# Altium integrated library Lattice FPGA XP.IntLib: 280 symbols (part 54 of 55)
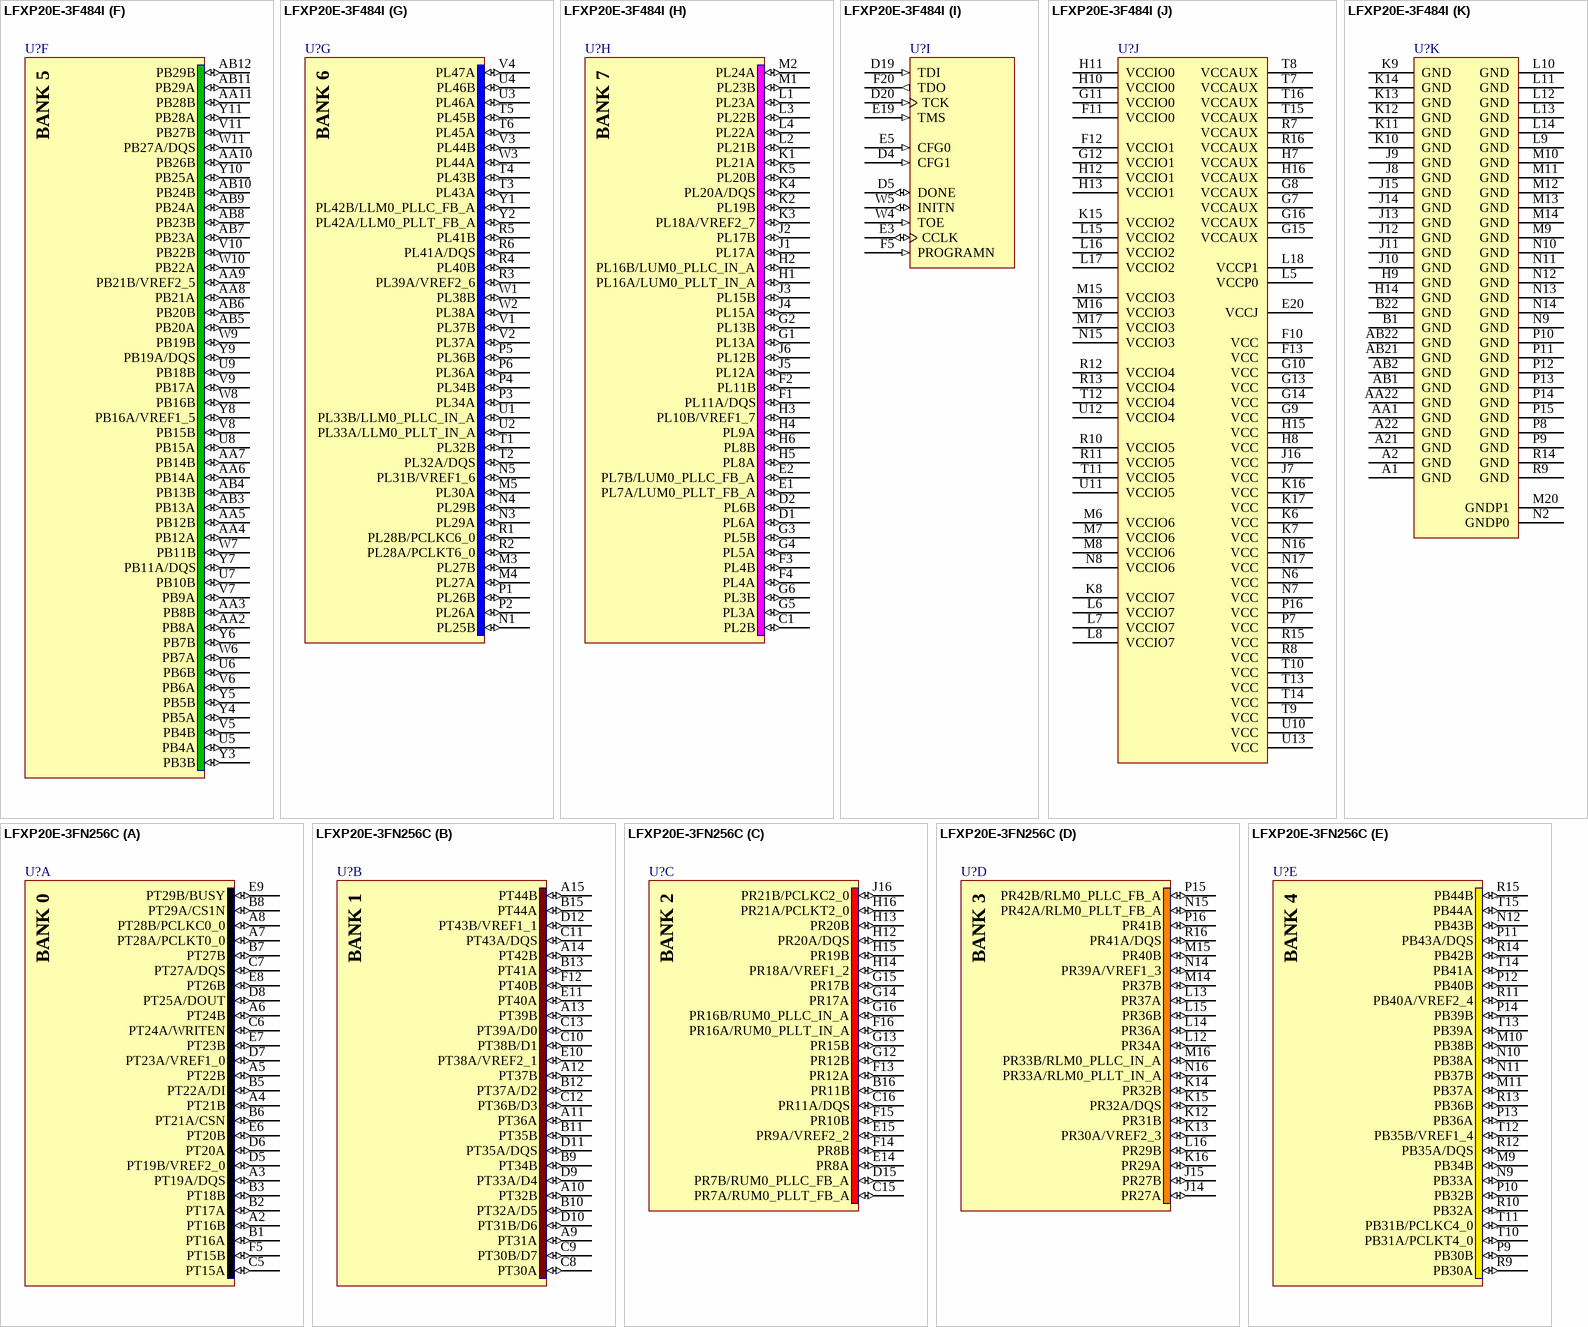
[diagram p280: symbols LFXP20E-3F484I to LFXP20E-3FN256C]

## LFXP20E-3F484I
designator U?
XP 1.2V FPGA, 340 I/Os, 20K LUTs, 484-Pin fpBGA, Speed Grade 3, Industrial Grade; DatasheetVersion: ver05.1, Nov-2007; PackageVersion: ver02.8, Jul-2011; PackageReference: fpBGA484; PackageDescription: 484-Ball Fine Pitch Ball Grid Array (fpBGA484); Code_IPC: BGA100P22X22-484; ComponentLink1Description: Manufacturer URL; ComponentLink1URL: http://www.latticesemi.com/; ComponentLink2Description: Datasheet; ComponentLink2URL: http://www.latticesemi.com/lit/docs/datasheets/fpga/DS1001.pdf; ComponentLink3Description: Package Specification; ComponentLink3URL: http://www.latticesemi.com/lit/docs/package/pkg.pdf
footprint fpBGA484 (BGA, 484-Leads, Body 23x23mm, Pitch 1mm)
part A pins: A3 PT12A (io), A4 PT14A (io), A5 PT16A (io), A6 PT19A/DQS (io), A7 PT21A/CSN (io), A8 PT24A/WRITEN (io), A9 PT25A/DOUT (io), A10 PT29A/CS1N (io), A11 PT29B/BUSY (io), B2 PT10B (io), B3 PT12B (io), B4 PT14B (io), B5 PT16B (io), B6 PT19B/VREF2_0 (io), B7 PT21B (io), B8 PT24B (io), B9 PT26B (io), B10 PT22A/DI (io), B11 PT27B (io), C2 PT9A (io), C3 PT8B (io), C4 PT5A (io), C5 PT5B (io), C6 PT6B (io), C7 PT11A/DQS (io), C8 PT15B (io), C9 PT20B (io), C10 PT22B (io), C11 PT27A/DQS (io), D3 PT8A (io), D6 PT6A (io), D7 PT11B (io), D8 PT15A (io), D9 PT20A (io), D10 PT23A/VREF1_0 (io), D11 PT28B/PCLKC0_0 (io), E4 PT3B (io), E6 PT4A (io), E7 PT7A (io), E8 PT13A (io), E9 PT17A (io), E10 PT23B (io), E11 PT28A/PCLKT0_0 (io), F6 PT4B (io), F7 PT7B (io), F8 PT13B (io), F9 PT18B (io)
part B pins: A12 PT30A (io), A13 PT30B/D7 (io), A14 PT34B (io), A15 PT37B (io), A16 PT38B/D1 (io), A17 PT42B (io), A18 PT44B (io), A19 PT46B (io), A20 PT47B (io), B12 PT32A/D5 (io), B13 PT35A/DQS (io), B14 PT33A/D4 (io), B15 PT37A/D2 (io), B16 PT38A/VREF2_1 (io), B17 PT41A (io), B18 PT44A (io), B19 PT46A (io), B20 PT47A (io), B21 PT53A (io), C12 PT32B (io), C13 PT35B (io), C14 PT39A/D0 (io), C15 PT45B (io), C16 PT48B (io), C17 PT51B (io), C18 PT54A (io), C19 PT54B (io), C20 PT56A (io), C21 PT53B (io), D12 PT31B/D6 (io), D13 PT36A (io), D14 PT39B (io), D15 PT45A (io), D16 PT48A (io), D17 PT51A/DQS (io), D18 PT55B (io), E12 PT31A (io), E13 PT36B/D3 (io), E14 PT40B (io), E15 PT43A/DQS (io), E16 PT52A (io), E17 PT52B (io), E18 PT55A (io), F14 PT40A (io), F15 PT43B/VREF1_1 (io), F16 PT49A (io), F17 PT50B (io)
part C pins: C22 PR2B (io), D21 PR6B (io), D22 PR6A (io), E21 PR7B/RUM0_PLLC_FB_A (io), E22 PR7A/RUM0_PLLT_FB_A (io), F18 PR3B (io), F19 PR3A (io), F21 PR11B (io), F22 PR11A/DQS (io), G17 PR4B (io), G18 PR4A (io), G19 PR5A (io), G20 PR5B (io), G21 PR12B (io), G22 PR12A (io), H17 PR8B (io), H18 PR8A (io), H19 PR9A/VREF2_2 (io), H20 PR10B (io), H21 PR16B/RUM0_PLLC_IN_A (io), H22 PR16A/RUM0_PLLT_IN_A (io), J17 PR13B (io), J18 PR13A (io), J19 PR15A (io), J20 PR15B (io), J21 PR20B (io), J22 PR20A/DQS (io), K18 PR19B (io), K19 PR18A/VREF1_2 (io), K20 PR17A (io), K21 PR17B (io), K22 PR21A/PCLKT2_0 (io), L19 PR22B (io), L20 PR22A (io), L21 PR21B/PCLKC2_0 (io), L22 PR23A (io), M21 PR24A (io), M22 PR23B (io)
part D pins: M18 PR28A (io), M19 PR25B (io), N18 PR28B (io), N19 PR29B (io), N20 PR29A (io), N21 PR26A (io), N22 PR26B (io), P17 PR38B (io), P18 PR38A (io), P19 PR33B/RLM0_PLLC_IN_A (io), P20 PR33A/RLM0_PLLT_IN_A (io), P21 PR27A (io), P22 PR27B (io), R17 PR42A/RLM0_PLLT_FB_A (io), R18 PR42B/RLM0_PLLC_FB_A (io), R19 PR37B (io), R20 PR37A (io), R21 PR30A/VREF2_3 (io), R22 PR31B (io), T17 PR44B (io), T18 PR44A (io), T19 PR43B (io), T20 PR43A (io), T21 PR32A/DQS (io), T22 PR32B (io), U19 PR46A (io), U20 PR46B (io), U21 PR34A (io), U22 PR34B (io), V19 PR47A (io), V20 PR45B (io), V21 PR36A (io), V22 PR36B (io), W20 PR45A (io), W21 PR39A/VREF1_3 (io), W22 PR40B (io), Y21 PR41A/DQS (io), Y22 PR41B (io)
part E pins: AA12 PB30B (io), AA13 PB33A (io), AA14 PB37A (io), AA15 PB37B (io), AA16 PB45A (io), AA17 PB45B (io), AA18 PB46A (io), AA19 PB46B (io), AA20 PB48A (io), AA21 PB48B (io), AB13 PB32A (io), AB14 PB32B (io), AB15 PB35A/DQS (io), AB16 PB35B/VREF1_4 (io), AB17 PB38A (io), AB18 PB38B (io), AB19 PB41A (io), AB20 PB42B (io), U14 PB40A/VREF2_4 (io), U15 PB43B (io), U16 PB52B (io), U17 PB55A (io), U18 PB53A (io), V12 PB31B/PCLKC4_0 (io), V13 PB36A (io), V14 PB40B (io), V15 PB43A/DQS (io), V16 PB52A (io), V17 PB55B (io), V18 PB53B (io), W12 PB31A/PCLKT4_0 (io), W13 PB36B (io), W14 PB39A (io), W15 PB44B (io), W16 PB47B (io), W17 PB56A (io), W18 PB54B (io), W19 PB54A (io), Y12 PB30A (io), Y13 PB34B (io), Y14 PB39B (io), Y15 PB44A (io), Y16 PB47A (io), Y17 PB49A (io), Y18 PB50B (io), Y19 PB51A/DQS (io), Y20 PB51B (io)
part F pins: AA2 PB8A (io), AA3 PB8B (io), AA4 PB12A (io), AA5 PB12B (io), AA6 PB14A (io), AA7 PB14B (io), AA8 PB21A (io), AA9 PB21B/VREF2_5 (io), AA10 PB26B (io), AA11 PB28B (io), AB3 PB13A (io), AB4 PB13B (io), AB5 PB20A (io), AB6 PB20B (io), AB7 PB23A (io), AB8 PB23B (io), AB9 PB24A (io), AB10 PB24B (io), AB11 PB29A (io), AB12 PB29B (io), U5 PB4A (io), U6 PB6B (io), U7 PB10B (io), U8 PB15A (io), U9 PB18B (io), V5 PB4B (io), V6 PB6A (io), V7 PB9A (io), V8 PB15B (io), V9 PB17A (io), V10 PB22B (io), V11 PB27B (io), W6 PB7A (io), W7 PB11B (io), W8 PB16B (io), W9 PB19B (io), W10 PB22A (io), W11 PB27A/DQS (io), Y3 PB3B (io), Y4 PB5A (io), Y5 PB5B (io), Y6 PB7B (io), Y7 PB11A/DQS (io), Y8 PB16A/VREF1_5 (io), Y9 PB19A/DQS (io), Y10 PB25A (io), Y11 PB28A (io)
part G pins: M3 PL27B (io), M4 PL27A (io), M5 PL30A (io), N1 PL25B (io), N3 PL29A (io), N4 PL29B (io), N5 PL31B/VREF1_6 (io), P1 PL26B (io), P2 PL26A (io), P3 PL34A (io), P4 PL34B (io), P5 PL36B (io), P6 PL36A (io), R1 PL28B/PCLKC6_0 (io), R2 PL28A/PCLKT6_0 (io), R3 PL39A/VREF2_6 (io), R4 PL40B (io), R5 PL41B (io), R6 PL41A/DQS (io), T1 PL32B (io), T2 PL32A/DQS (io), T3 PL43A (io), T4 PL43B (io), T5 PL45B (io), T6 PL45A (io), U1 PL33B/LLM0_PLLC_IN_A (io), U2 PL33A/LLM0_PLLT_IN_A (io), U3 PL46A (io), U4 PL46B (io), V1 PL37B (io), V2 PL37A (io), V3 PL44B (io), V4 PL47A (io), W1 PL38B (io), W2 PL38A (io), W3 PL44A (io), Y1 PL42B/LLM0_PLLC_FB_A (io), Y2 PL42A/LLM0_PLLT_FB_A (io)
part H pins: C1 PL2B (io), D1 PL6A (io), D2 PL6B (io), E1 PL7A/LUM0_PLLT_FB_A (io), E2 PL7B/LUM0_PLLC_FB_A (io), F1 PL11A/DQS (io), F2 PL11B (io), F3 PL4B (io), F4 PL4A (io), G1 PL13A (io), G2 PL13B (io), G3 PL5B (io), G4 PL5A (io), G5 PL3A (io), G6 PL3B (io), H1 PL16A/LUM0_PLLT_IN_A (io), H2 PL16B/LUM0_PLLC_IN_A (io), H3 PL10B/VREF1_7 (io), H4 PL9A (io), H5 PL8A (io), H6 PL8B (io), J1 PL17A (io), J2 PL17B (io), J3 PL15B (io), J4 PL15A (io), J5 PL12A (io), J6 PL12B (io), K1 PL21A (io), K2 PL19B (io), K3 PL18A/VREF2_7 (io), K4 PL20A/DQS (io), K5 PL20B (io), L1 PL23A (io), L2 PL21B (io), L3 PL22B (io), L4 PL22A (io), M1 PL23B (io), M2 PL24A (io)
part I pins: D4 CFG1 (in), D5 DONE (io), D19 TDI (in), D20 TCK (in), E3 CCLK (io), E5 CFG0 (in), E19 TMS (in), F5 PROGRAMN (in), F20 TDO (out), W4 TOE (in), W5 INITN (io)
part J pins: E20 VCCJ (power), F10 VCC (power), F11 VCCIO0 (power), F12 VCCIO1 (power), F13 VCC (power), G7 VCCAUX (power), G8 VCCAUX (power), G9 VCC (power), G10 VCC (power), G11 VCCIO0 (power), G12 VCCIO1 (power), G13 VCC (power), G14 VCC (power), G15 VCCAUX (power), G16 VCCAUX (power), H7 VCCAUX (power), H8 VCC (power), H10 VCCIO0 (power), H11 VCCIO0 (power), H12 VCCIO1 (power), H13 VCCIO1 (power), H15 VCC (power), H16 VCCAUX (power), J7 VCC (power), J16 VCC (power), K6 VCC (power), K7 VCC (power), K8 VCCIO7 (power), K15 VCCIO2 (power), K16 VCC (power), K17 VCC (power), L5 VCCP0 (power), L6 VCCIO7 (power), L7 VCCIO7 (power), L8 VCCIO7 (power), L15 VCCIO2 (power), L16 VCCIO2 (power), L17 VCCIO2 (power), L18 VCCP1 (power), M6 VCCIO6 (power), M7 VCCIO6 (power), M8 VCCIO6 (power), M15 VCCIO3 (power), M16 VCCIO3 (power), M17 VCCIO3 (power), N6 VCC (power), N7 VCC (power), N8 VCCIO6 (power), N15 VCCIO3 (power), N16 VCC (power), N17 VCC (power), P7 VCC (power), P16 VCC (power), R7 VCCAUX (power), R8 VCC (power), R10 VCCIO5 (power), R11 VCCIO5 (power), R12 VCCIO4 (power), R13 VCCIO4 (power), R15 VCC (power), R16 VCCAUX (power), T7 VCCAUX (power), T8 VCCAUX (power), T9 VCC (power), T10 VCC (power), T11 VCCIO5 (power), T12 VCCIO4 (power), T13 VCC (power), T14 VCC (power), T15 VCCAUX (power), T16 VCCAUX (power), U10 VCC (power), U11 VCCIO5 (power), U12 VCCIO4 (power), U13 VCC (power)
part K pins: A1 GND (power), A2 GND (power), A21 GND (power), A22 GND (power), AA1 GND (power), AA22 GND (power), AB1 GND (power), AB2 GND (power), AB21 GND (power), AB22 GND (power), B1 GND (power), B22 GND (power), H9 GND (power), H14 GND (power), J8 GND (power), J9 GND (power), J10 GND (power), J11 GND (power), J12 GND (power), J13 GND (power), J14 GND (power), J15 GND (power), K9 GND (power), K10 GND (power), K11 GND (power), K12 GND (power), K13 GND (power), K14 GND (power), L9 GND (power), L10 GND (power), L11 GND (power), L12 GND (power), L13 GND (power), L14 GND (power), M9 GND (power), M10 GND (power), M11 GND (power), M12 GND (power), M13 GND (power), M14 GND (power), M20 GNDP1 (power), N2 GNDP0 (power), N9 GND (power), N10 GND (power), N11 GND (power), N12 GND (power), N13 GND (power), N14 GND (power), P8 GND (power), P9 GND (power), P10 GND (power), P11 GND (power), P12 GND (power), P13 GND (power), P14 GND (power), P15 GND (power), R9 GND (power), R14 GND (power)
part A text: BANK 0
part B text: BANK 1
part C text: BANK 2
part D text: BANK 3
part E text: BANK 4
part F text: BANK 5
part G text: BANK 6
part H text: BANK 7

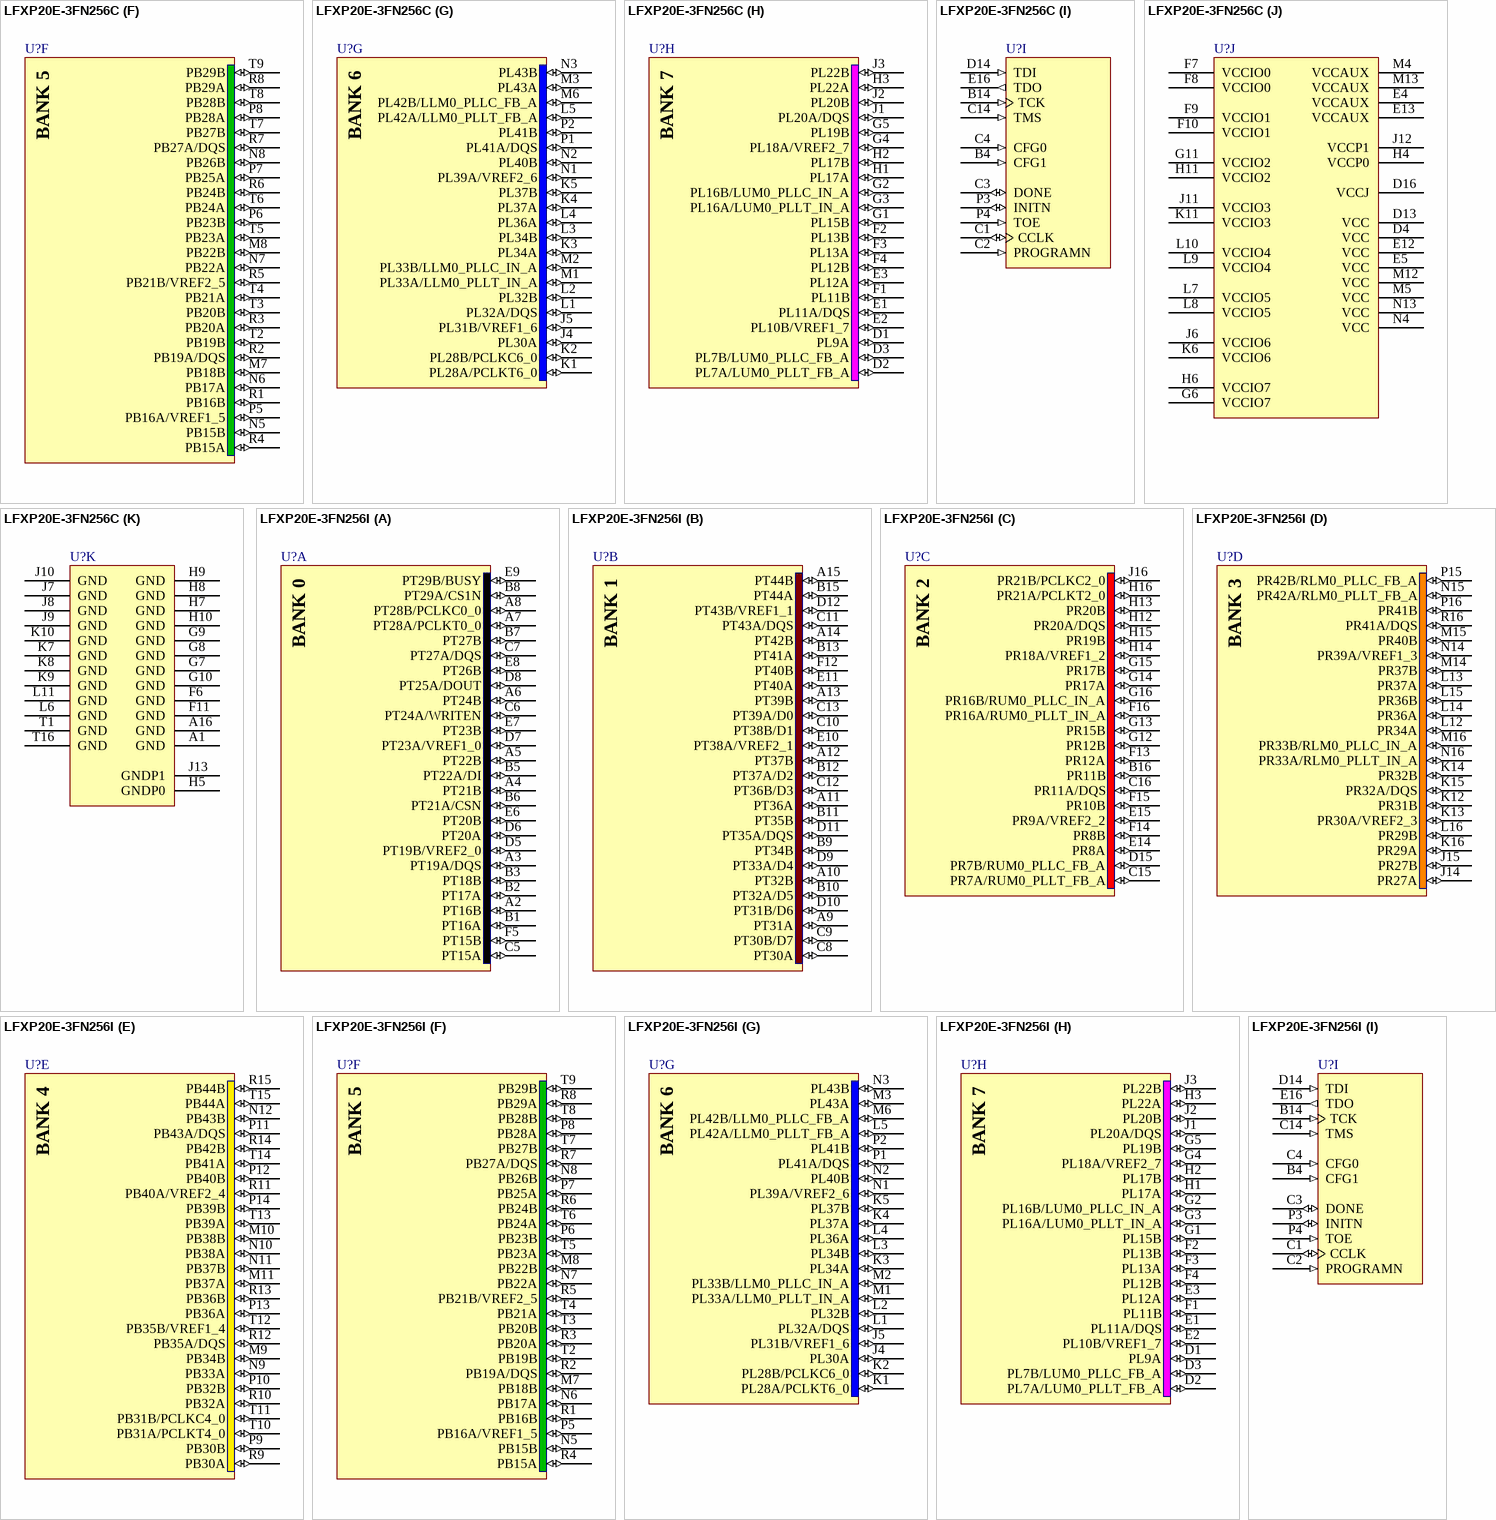
[diagram p222: symbols LFXP20E-3FN256C to LFXP20E-3FN256I]

## LFXP20E-3FN256C
designator U?
XP 1.2V FPGA, 188 I/Os, 20K LUTs, 256-Pin fpBGA, Speed Grade 3, Commerical Grade, Pb-Free; DatasheetVersion: ver05.1, Nov-2007; PackageVersion: ver01.8, Dec-2008; PackageReference: fpBGA256; PackageDescription: 256-Ball Fine Pitch Ball Grid Array (fpBGA256); Code_IPC: BGA100P16X16-256; ComponentLink1Description: Manufacturer URL; ComponentLink1URL: http://www.latticesemi.com/; ComponentLink2Description: Datasheet; ComponentLink2URL: http://www.latticesemi.com/lit/docs/datasheets/fpga/DS1001.pdf; ComponentLink3Description: Package Specification; ComponentLink3URL: http://www.latticesemi.com/lit/docs/package/pkg.pdf
footprint fpBGA256 (BGA, 256-Leads, Body 17x17mm, Pitch 1mm)
part A pins: A2 PT16B (io), A3 PT19A/DQS (io), A4 PT21B (io), A5 PT22B (io), A6 PT24B (io), A7 PT28A/PCLKT0_0 (io), A8 PT28B/PCLKC0_0 (io), B1 PT16A (io), B2 PT17A (io), B3 PT18B (io), B5 PT22A/DI (io), B6 PT21A/CSN (io), B7 PT27B (io), B8 PT29A/CS1N (io), C5 PT15A (io), C6 PT24A/WRITEN (io), C7 PT27A/DQS (io), D5 PT19B/VREF2_0 (io), D6 PT20A (io), D7 PT23A/VREF1_0 (io), D8 PT25A/DOUT (io), E6 PT20B (io), E7 PT23B (io), E8 PT26B (io), E9 PT29B/BUSY (io), F5 PT15B (io)
part B pins: A9 PT31A (io), A10 PT32B (io), A11 PT36A (io), A12 PT37B (io), A13 PT39B (io), A14 PT42B (io), A15 PT44B (io), B9 PT34B (io), B10 PT32A/D5 (io), B11 PT35B (io), B12 PT37A/D2 (io), B13 PT41A (io), B15 PT44A (io), C8 PT30A (io), C9 PT30B/D7 (io), C10 PT38B/D1 (io), C11 PT43A/DQS (io), C12 PT36B/D3 (io), C13 PT39A/D0 (io), D9 PT33A/D4 (io), D10 PT31B/D6 (io), D11 PT35A/DQS (io), D12 PT43B/VREF1_1 (io), E10 PT38A/VREF2_1 (io), E11 PT40A (io), F12 PT40B (io)
part C pins: B16 PR11B (io), C15 PR7A/RUM0_PLLT_FB_A (io), C16 PR11A/DQS (io), D15 PR7B/RUM0_PLLC_FB_A (io), E14 PR8A (io), E15 PR9A/VREF2_2 (io), F13 PR12A (io), F14 PR8B (io), F15 PR10B (io), F16 PR16A/RUM0_PLLT_IN_A (io), G12 PR12B (io), G13 PR15B (io), G14 PR17A (io), G15 PR17B (io), G16 PR16B/RUM0_PLLC_IN_A (io), H12 PR20A/DQS (io), H13 PR20B (io), H14 PR18A/VREF1_2 (io), H15 PR19B (io), H16 PR21A/PCLKT2_0 (io), J16 PR21B/PCLKC2_0 (io)
part D pins: J14 PR27A (io), J15 PR27B (io), K12 PR31B (io), K13 PR30A/VREF2_3 (io), K14 PR32B (io), K15 PR32A/DQS (io), K16 PR29A (io), L12 PR34A (io), L13 PR37A (io), L14 PR36A (io), L15 PR36B (io), L16 PR29B (io), M14 PR37B (io), M15 PR40B (io), M16 PR33B/RLM0_PLLC_IN_A (io), N14 PR39A/VREF1_3 (io), N15 PR42A/RLM0_PLLT_FB_A (io), N16 PR33A/RLM0_PLLT_IN_A (io), P15 PR42B/RLM0_PLLC_FB_A (io), P16 PR41B (io), R16 PR41A/DQS (io)
part E pins: M9 PB34B (io), M10 PB38B (io), M11 PB37A (io), N9 PB33A (io), N10 PB38A (io), N11 PB37B (io), N12 PB43B (io), P9 PB30B (io), P10 PB32B (io), P11 PB43A/DQS (io), P12 PB40B (io), P13 PB36A (io), P14 PB39B (io), R9 PB30A (io), R10 PB32A (io), R11 PB40A/VREF2_4 (io), R12 PB35A/DQS (io), R13 PB36B (io), R14 PB42B (io), R15 PB44B (io), T10 PB31A/PCLKT4_0 (io), T11 PB31B/PCLKC4_0 (io), T12 PB35B/VREF1_4 (io), T13 PB39A (io), T14 PB41A (io), T15 PB44A (io)
part F pins: M7 PB18B (io), M8 PB22B (io), N5 PB15B (io), N6 PB17A (io), N7 PB22A (io), N8 PB26B (io), P5 PB16A/VREF1_5 (io), P6 PB23B (io), P7 PB25A (io), P8 PB28A (io), R1 PB16B (io), R2 PB19A/DQS (io), R3 PB20A (io), R4 PB15A (io), R5 PB21B/VREF2_5 (io), R6 PB24B (io), R7 PB27A/DQS (io), R8 PB29A (io), T2 PB19B (io), T3 PB20B (io), T4 PB21A (io), T5 PB23A (io), T6 PB24A (io), T7 PB27B (io), T8 PB28B (io), T9 PB29B (io)
part G pins: J4 PL30A (io), J5 PL31B/VREF1_6 (io), K1 PL28A/PCLKT6_0 (io), K2 PL28B/PCLKC6_0 (io), K3 PL34A (io), K4 PL37A (io), K5 PL37B (io), L1 PL32A/DQS (io), L2 PL32B (io), L3 PL34B (io), L4 PL36A (io), L5 PL42A/LLM0_PLLT_FB_A (io), M1 PL33A/LLM0_PLLT_IN_A (io), M2 PL33B/LLM0_PLLC_IN_A (io), M3 PL43A (io), M6 PL42B/LLM0_PLLC_FB_A (io), N1 PL39A/VREF2_6 (io), N2 PL40B (io), N3 PL43B (io), P1 PL41A/DQS (io), P2 PL41B (io)
part H pins: D1 PL9A (io), D2 PL7A/LUM0_PLLT_FB_A (io), D3 PL7B/LUM0_PLLC_FB_A (io), E1 PL11A/DQS (io), E2 PL10B/VREF1_7 (io), E3 PL12A (io), F1 PL11B (io), F2 PL13B (io), F3 PL13A (io), F4 PL12B (io), G1 PL15B (io), G2 PL16B/LUM0_PLLC_IN_A (io), G3 PL16A/LUM0_PLLT_IN_A (io), G4 PL18A/VREF2_7 (io), G5 PL19B (io), H1 PL17A (io), H2 PL17B (io), H3 PL22A (io), J1 PL20A/DQS (io), J2 PL20B (io), J3 PL22B (io)
part I pins: B4 CFG1 (in), B14 TCK (in), C1 CCLK (io), C2 PROGRAMN (in), C3 DONE (io), C4 CFG0 (in), C14 TMS (in), D14 TDI (in), E16 TDO (out), P3 INITN (io), P4 TOE (in)
part J pins: D4 VCC (power), D13 VCC (power), D16 VCCJ (power), E4 VCCAUX (power), E5 VCC (power), E12 VCC (power), E13 VCCAUX (power), F7 VCCIO0 (power), F8 VCCIO0 (power), F9 VCCIO1 (power), F10 VCCIO1 (power), G6 VCCIO7 (power), G11 VCCIO2 (power), H4 VCCP0 (power), H6 VCCIO7 (power), H11 VCCIO2 (power), J6 VCCIO6 (power), J11 VCCIO3 (power), J12 VCCP1 (power), K6 VCCIO6 (power), K11 VCCIO3 (power), L7 VCCIO5 (power), L8 VCCIO5 (power), L9 VCCIO4 (power), L10 VCCIO4 (power), M4 VCCAUX (power), M5 VCC (power), M12 VCC (power), M13 VCCAUX (power), N4 VCC (power), N13 VCC (power)
part K pins: A1 GND (power), A16 GND (power), F6 GND (power), F11 GND (power), G7 GND (power), G8 GND (power), G9 GND (power), G10 GND (power), H5 GNDP0 (power), H7 GND (power), H8 GND (power), H9 GND (power), H10 GND (power), J7 GND (power), J8 GND (power), J9 GND (power), J10 GND (power), J13 GNDP1 (power), K7 GND (power), K8 GND (power), K9 GND (power), K10 GND (power), L6 GND (power), L11 GND (power), T1 GND (power), T16 GND (power)
part A text: BANK 0
part B text: BANK 1
part C text: BANK 2
part D text: BANK 3
part E text: BANK 4
part F text: BANK 5
part G text: BANK 6
part H text: BANK 7

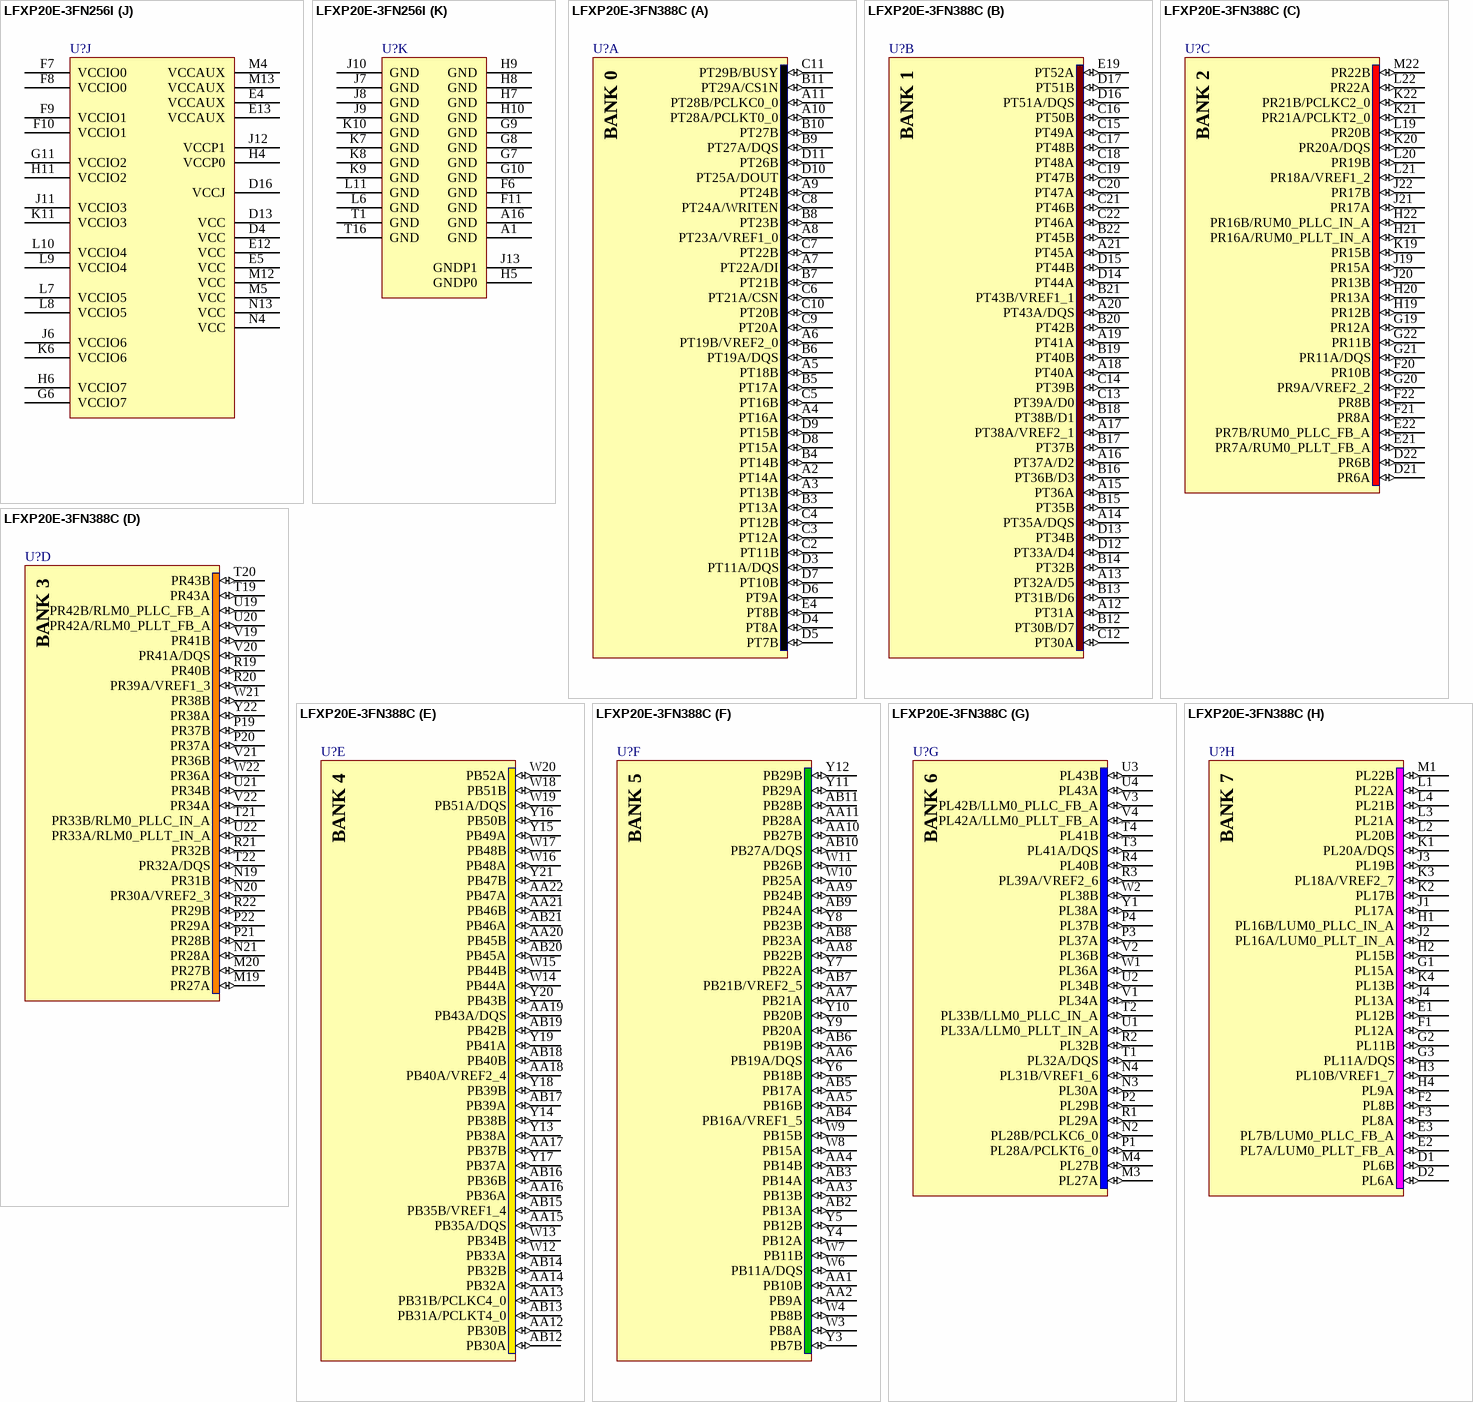
[diagram p223: symbols LFXP20E-3FN256I to LFXP20E-3FN388C]

## LFXP20E-3FN256I
designator U?
XP 1.2V FPGA, 188 I/Os, 20K LUTs, 256-Pin fpBGA, Speed Grade 3, Industrial Grade, Pb-Free; DatasheetVersion: ver05.1, Nov-2007; PackageVersion: ver01.8, Dec-2008; PackageReference: fpBGA256; PackageDescription: 256-Ball Fine Pitch Ball Grid Array (fpBGA256); Code_IPC: BGA100P16X16-256; ComponentLink1Description: Manufacturer URL; ComponentLink1URL: http://www.latticesemi.com/; ComponentLink2Description: Datasheet; ComponentLink2URL: http://www.latticesemi.com/lit/docs/datasheets/fpga/DS1001.pdf; ComponentLink3Description: Package Specification; ComponentLink3URL: http://www.latticesemi.com/lit/docs/package/pkg.pdf
footprint fpBGA256 (BGA, 256-Leads, Body 17x17mm, Pitch 1mm)
part A pins: A2 PT16B (io), A3 PT19A/DQS (io), A4 PT21B (io), A5 PT22B (io), A6 PT24B (io), A7 PT28A/PCLKT0_0 (io), A8 PT28B/PCLKC0_0 (io), B1 PT16A (io), B2 PT17A (io), B3 PT18B (io), B5 PT22A/DI (io), B6 PT21A/CSN (io), B7 PT27B (io), B8 PT29A/CS1N (io), C5 PT15A (io), C6 PT24A/WRITEN (io), C7 PT27A/DQS (io), D5 PT19B/VREF2_0 (io), D6 PT20A (io), D7 PT23A/VREF1_0 (io), D8 PT25A/DOUT (io), E6 PT20B (io), E7 PT23B (io), E8 PT26B (io), E9 PT29B/BUSY (io), F5 PT15B (io)
part B pins: A9 PT31A (io), A10 PT32B (io), A11 PT36A (io), A12 PT37B (io), A13 PT39B (io), A14 PT42B (io), A15 PT44B (io), B9 PT34B (io), B10 PT32A/D5 (io), B11 PT35B (io), B12 PT37A/D2 (io), B13 PT41A (io), B15 PT44A (io), C8 PT30A (io), C9 PT30B/D7 (io), C10 PT38B/D1 (io), C11 PT43A/DQS (io), C12 PT36B/D3 (io), C13 PT39A/D0 (io), D9 PT33A/D4 (io), D10 PT31B/D6 (io), D11 PT35A/DQS (io), D12 PT43B/VREF1_1 (io), E10 PT38A/VREF2_1 (io), E11 PT40A (io), F12 PT40B (io)
part C pins: B16 PR11B (io), C15 PR7A/RUM0_PLLT_FB_A (io), C16 PR11A/DQS (io), D15 PR7B/RUM0_PLLC_FB_A (io), E14 PR8A (io), E15 PR9A/VREF2_2 (io), F13 PR12A (io), F14 PR8B (io), F15 PR10B (io), F16 PR16A/RUM0_PLLT_IN_A (io), G12 PR12B (io), G13 PR15B (io), G14 PR17A (io), G15 PR17B (io), G16 PR16B/RUM0_PLLC_IN_A (io), H12 PR20A/DQS (io), H13 PR20B (io), H14 PR18A/VREF1_2 (io), H15 PR19B (io), H16 PR21A/PCLKT2_0 (io), J16 PR21B/PCLKC2_0 (io)
part D pins: J14 PR27A (io), J15 PR27B (io), K12 PR31B (io), K13 PR30A/VREF2_3 (io), K14 PR32B (io), K15 PR32A/DQS (io), K16 PR29A (io), L12 PR34A (io), L13 PR37A (io), L14 PR36A (io), L15 PR36B (io), L16 PR29B (io), M14 PR37B (io), M15 PR40B (io), M16 PR33B/RLM0_PLLC_IN_A (io), N14 PR39A/VREF1_3 (io), N15 PR42A/RLM0_PLLT_FB_A (io), N16 PR33A/RLM0_PLLT_IN_A (io), P15 PR42B/RLM0_PLLC_FB_A (io), P16 PR41B (io), R16 PR41A/DQS (io)
part E pins: M9 PB34B (io), M10 PB38B (io), M11 PB37A (io), N9 PB33A (io), N10 PB38A (io), N11 PB37B (io), N12 PB43B (io), P9 PB30B (io), P10 PB32B (io), P11 PB43A/DQS (io), P12 PB40B (io), P13 PB36A (io), P14 PB39B (io), R9 PB30A (io), R10 PB32A (io), R11 PB40A/VREF2_4 (io), R12 PB35A/DQS (io), R13 PB36B (io), R14 PB42B (io), R15 PB44B (io), T10 PB31A/PCLKT4_0 (io), T11 PB31B/PCLKC4_0 (io), T12 PB35B/VREF1_4 (io), T13 PB39A (io), T14 PB41A (io), T15 PB44A (io)
part F pins: M7 PB18B (io), M8 PB22B (io), N5 PB15B (io), N6 PB17A (io), N7 PB22A (io), N8 PB26B (io), P5 PB16A/VREF1_5 (io), P6 PB23B (io), P7 PB25A (io), P8 PB28A (io), R1 PB16B (io), R2 PB19A/DQS (io), R3 PB20A (io), R4 PB15A (io), R5 PB21B/VREF2_5 (io), R6 PB24B (io), R7 PB27A/DQS (io), R8 PB29A (io), T2 PB19B (io), T3 PB20B (io), T4 PB21A (io), T5 PB23A (io), T6 PB24A (io), T7 PB27B (io), T8 PB28B (io), T9 PB29B (io)
part G pins: J4 PL30A (io), J5 PL31B/VREF1_6 (io), K1 PL28A/PCLKT6_0 (io), K2 PL28B/PCLKC6_0 (io), K3 PL34A (io), K4 PL37A (io), K5 PL37B (io), L1 PL32A/DQS (io), L2 PL32B (io), L3 PL34B (io), L4 PL36A (io), L5 PL42A/LLM0_PLLT_FB_A (io), M1 PL33A/LLM0_PLLT_IN_A (io), M2 PL33B/LLM0_PLLC_IN_A (io), M3 PL43A (io), M6 PL42B/LLM0_PLLC_FB_A (io), N1 PL39A/VREF2_6 (io), N2 PL40B (io), N3 PL43B (io), P1 PL41A/DQS (io), P2 PL41B (io)
part H pins: D1 PL9A (io), D2 PL7A/LUM0_PLLT_FB_A (io), D3 PL7B/LUM0_PLLC_FB_A (io), E1 PL11A/DQS (io), E2 PL10B/VREF1_7 (io), E3 PL12A (io), F1 PL11B (io), F2 PL13B (io), F3 PL13A (io), F4 PL12B (io), G1 PL15B (io), G2 PL16B/LUM0_PLLC_IN_A (io), G3 PL16A/LUM0_PLLT_IN_A (io), G4 PL18A/VREF2_7 (io), G5 PL19B (io), H1 PL17A (io), H2 PL17B (io), H3 PL22A (io), J1 PL20A/DQS (io), J2 PL20B (io), J3 PL22B (io)
part I pins: B4 CFG1 (in), B14 TCK (in), C1 CCLK (io), C2 PROGRAMN (in), C3 DONE (io), C4 CFG0 (in), C14 TMS (in), D14 TDI (in), E16 TDO (out), P3 INITN (io), P4 TOE (in)
part J pins: D4 VCC (power), D13 VCC (power), D16 VCCJ (power), E4 VCCAUX (power), E5 VCC (power), E12 VCC (power), E13 VCCAUX (power), F7 VCCIO0 (power), F8 VCCIO0 (power), F9 VCCIO1 (power), F10 VCCIO1 (power), G6 VCCIO7 (power), G11 VCCIO2 (power), H4 VCCP0 (power), H6 VCCIO7 (power), H11 VCCIO2 (power), J6 VCCIO6 (power), J11 VCCIO3 (power), J12 VCCP1 (power), K6 VCCIO6 (power), K11 VCCIO3 (power), L7 VCCIO5 (power), L8 VCCIO5 (power), L9 VCCIO4 (power), L10 VCCIO4 (power), M4 VCCAUX (power), M5 VCC (power), M12 VCC (power), M13 VCCAUX (power), N4 VCC (power), N13 VCC (power)
part K pins: A1 GND (power), A16 GND (power), F6 GND (power), F11 GND (power), G7 GND (power), G8 GND (power), G9 GND (power), G10 GND (power), H5 GNDP0 (power), H7 GND (power), H8 GND (power), H9 GND (power), H10 GND (power), J7 GND (power), J8 GND (power), J9 GND (power), J10 GND (power), J13 GNDP1 (power), K7 GND (power), K8 GND (power), K9 GND (power), K10 GND (power), L6 GND (power), L11 GND (power), T1 GND (power), T16 GND (power)
part A text: BANK 0
part B text: BANK 1
part C text: BANK 2
part D text: BANK 3
part E text: BANK 4
part F text: BANK 5
part G text: BANK 6
part H text: BANK 7

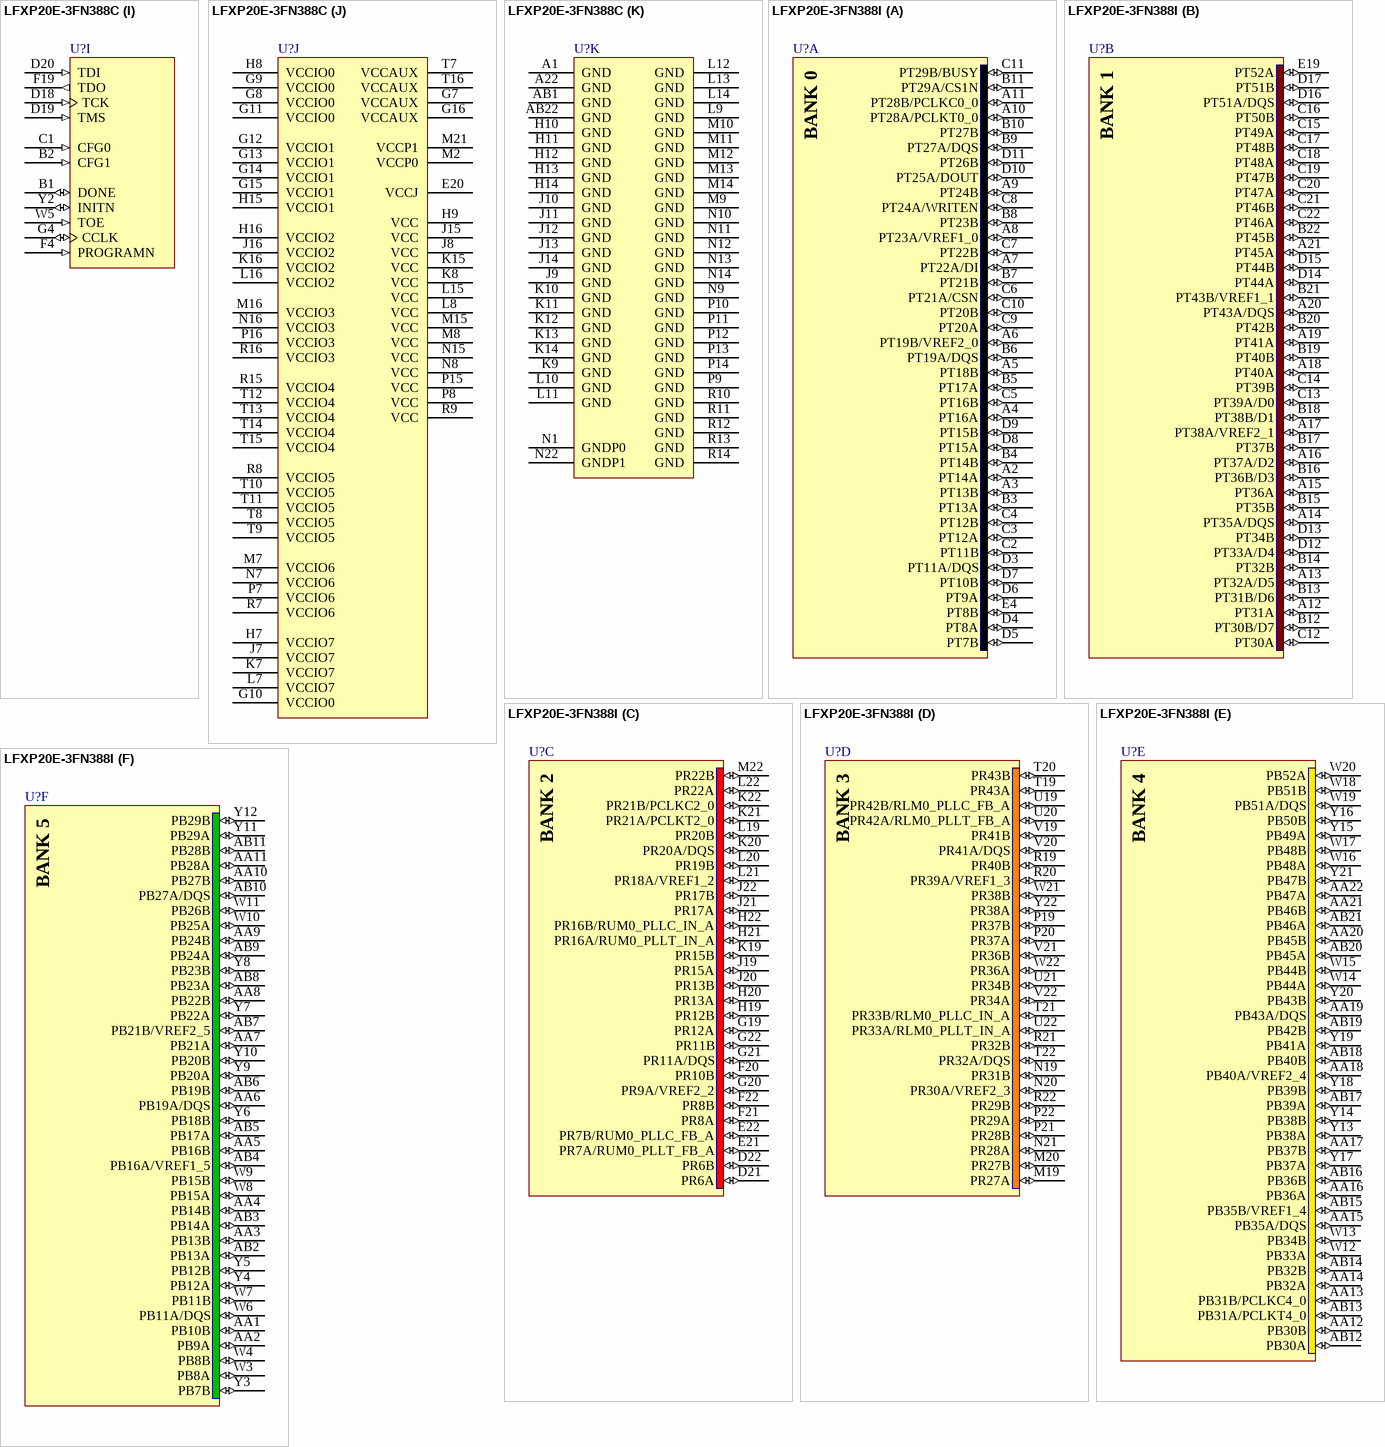
[diagram p224: symbols LFXP20E-3FN388C to LFXP20E-3FN388I]

## LFXP20E-3FN388C
designator U?
XP 1.2V FPGA, 268 I/Os, 20K LUTs, 388-Pin fpBGA, Speed Grade 3, Commerical Grade, Pb-Free; DatasheetVersion: ver05.1, Nov-2007; PackageVersion: ver01.8, Dec-2008; PackageReference: fpBGA388; PackageDescription: 388-Ball Fine Pitch Ball Grid Array (fpBGA388); ComponentLink1Description: Manufacturer URL; ComponentLink1URL: http://www.latticesemi.com/; ComponentLink2Description: Datasheet; ComponentLink2URL: http://www.latticesemi.com/lit/docs/datasheets/fpga/DS1001.pdf; ComponentLink3Description: Package Specification; ComponentLink3URL: http://www.latticesemi.com/lit/docs/package/pkg.pdf
footprint fpBGA388 (BGA, 388-Leads, Body 23x23mm, Pitch 1mm)
part A pins: A2 PT14A (io), A3 PT13B (io), A4 PT16A (io), A5 PT18B (io), A6 PT19B/VREF2_0 (io), A7 PT22A/DI (io), A8 PT23A/VREF1_0 (io), A9 PT24B (io), A10 PT28A/PCLKT0_0 (io), A11 PT28B/PCLKC0_0 (io), B3 PT13A (io), B4 PT14B (io), B5 PT17A (io), B6 PT19A/DQS (io), B7 PT21B (io), B8 PT23B (io), B9 PT27A/DQS (io), B10 PT27B (io), B11 PT29A/CS1N (io), C2 PT11B (io), C3 PT12A (io), C4 PT12B (io), C5 PT16B (io), C6 PT21A/CSN (io), C7 PT22B (io), C8 PT24A/WRITEN (io), C9 PT20A (io), C10 PT20B (io), C11 PT29B/BUSY (io), D3 PT11A/DQS (io), D4 PT8A (io), D5 PT7B (io), D6 PT9A (io), D7 PT10B (io), D8 PT15A (io), D9 PT15B (io), D10 PT25A/DOUT (io), D11 PT26B (io), E4 PT8B (io)
part B pins: A12 PT31A (io), A13 PT32A/D5 (io), A14 PT35A/DQS (io), A15 PT36A (io), A16 PT37A/D2 (io), A17 PT38A/VREF2_1 (io), A18 PT40A (io), A19 PT41A (io), A20 PT43A/DQS (io), A21 PT45A (io), B12 PT30B/D7 (io), B13 PT31B/D6 (io), B14 PT32B (io), B15 PT35B (io), B16 PT36B/D3 (io), B17 PT37B (io), B18 PT38B/D1 (io), B19 PT40B (io), B20 PT42B (io), B21 PT43B/VREF1_1 (io), B22 PT45B (io), C12 PT30A (io), C13 PT39A/D0 (io), C14 PT39B (io), C15 PT49A (io), C16 PT50B (io), C17 PT48B (io), C18 PT48A (io), C19 PT47B (io), C20 PT47A (io), C21 PT46B (io), C22 PT46A (io), D12 PT33A/D4 (io), D13 PT34B (io), D14 PT44A (io), D15 PT44B (io), D16 PT51A/DQS (io), D17 PT51B (io), E19 PT52A (io)
part C pins: D21 PR6A (io), D22 PR6B (io), E21 PR7A/RUM0_PLLT_FB_A (io), E22 PR7B/RUM0_PLLC_FB_A (io), F20 PR10B (io), F21 PR8A (io), F22 PR8B (io), G19 PR12A (io), G20 PR9A/VREF2_2 (io), G21 PR11A/DQS (io), G22 PR11B (io), H19 PR12B (io), H20 PR13A (io), H21 PR16A/RUM0_PLLT_IN_A (io), H22 PR16B/RUM0_PLLC_IN_A (io), J19 PR15A (io), J20 PR13B (io), J21 PR17A (io), J22 PR17B (io), K19 PR15B (io), K20 PR20A/DQS (io), K21 PR21A/PCLKT2_0 (io), K22 PR21B/PCLKC2_0 (io), L19 PR20B (io), L20 PR19B (io), L21 PR18A/VREF1_2 (io), L22 PR22A (io), M22 PR22B (io)
part D pins: M19 PR27A (io), M20 PR27B (io), N19 PR31B (io), N20 PR30A/VREF2_3 (io), N21 PR28A (io), P19 PR37B (io), P20 PR37A (io), P21 PR28B (io), P22 PR29A (io), R19 PR40B (io), R20 PR39A/VREF1_3 (io), R21 PR32B (io), R22 PR29B (io), T19 PR43A (io), T20 PR43B (io), T21 PR33B/RLM0_PLLC_IN_A (io), T22 PR32A/DQS (io), U19 PR42B/RLM0_PLLC_FB_A (io), U20 PR42A/RLM0_PLLT_FB_A (io), U21 PR34B (io), U22 PR33A/RLM0_PLLT_IN_A (io), V19 PR41B (io), V20 PR41A/DQS (io), V21 PR36B (io), V22 PR34A (io), W21 PR38B (io), W22 PR36A (io), Y22 PR38A (io)
part E pins: AA12 PB30B (io), AA13 PB31B/PCLKC4_0 (io), AA14 PB32A (io), AA15 PB35A/DQS (io), AA16 PB36A (io), AA17 PB37B (io), AA18 PB40A/VREF2_4 (io), AA19 PB43A/DQS (io), AA20 PB45B (io), AA21 PB46B (io), AA22 PB47A (io), AB12 PB30A (io), AB13 PB31A/PCLKT4_0 (io), AB14 PB32B (io), AB15 PB35B/VREF1_4 (io), AB16 PB36B (io), AB17 PB39A (io), AB18 PB40B (io), AB19 PB42B (io), AB20 PB45A (io), AB21 PB46A (io), W12 PB33A (io), W13 PB34B (io), W14 PB44A (io), W15 PB44B (io), W16 PB48A (io), W17 PB48B (io), W18 PB51B (io), W19 PB51A/DQS (io), W20 PB52A (io), Y13 PB38A (io), Y14 PB38B (io), Y15 PB49A (io), Y16 PB50B (io), Y17 PB37A (io), Y18 PB39B (io), Y19 PB41A (io), Y20 PB43B (io), Y21 PB47B (io)
part F pins: AA1 PB10B (io), AA2 PB9A (io), AA3 PB13B (io), AA4 PB14B (io), AA5 PB16B (io), AA6 PB19A/DQS (io), AA7 PB21A (io), AA8 PB22B (io), AA9 PB24B (io), AA10 PB27B (io), AA11 PB28A (io), AB2 PB13A (io), AB3 PB14A (io), AB4 PB16A/VREF1_5 (io), AB5 PB17A (io), AB6 PB19B (io), AB7 PB21B/VREF2_5 (io), AB8 PB23A (io), AB9 PB24A (io), AB10 PB27A/DQS (io), AB11 PB28B (io), W3 PB8A (io), W4 PB8B (io), W6 PB11A/DQS (io), W7 PB11B (io), W8 PB15A (io), W9 PB15B (io), W10 PB25A (io), W11 PB26B (io), Y3 PB7B (io), Y4 PB12A (io), Y5 PB12B (io), Y6 PB18B (io), Y7 PB22A (io), Y8 PB23B (io), Y9 PB20A (io), Y10 PB20B (io), Y11 PB29A (io), Y12 PB29B (io)
part G pins: M3 PL27A (io), M4 PL27B (io), N2 PL28B/PCLKC6_0 (io), N3 PL30A (io), N4 PL31B/VREF1_6 (io), P1 PL28A/PCLKT6_0 (io), P2 PL29B (io), P3 PL37A (io), P4 PL37B (io), R1 PL29A (io), R2 PL32B (io), R3 PL39A/VREF2_6 (io), R4 PL40B (io), T1 PL32A/DQS (io), T2 PL33B/LLM0_PLLC_IN_A (io), T3 PL41A/DQS (io), T4 PL41B (io), U1 PL33A/LLM0_PLLT_IN_A (io), U2 PL34B (io), U3 PL43B (io), U4 PL43A (io), V1 PL34A (io), V2 PL36B (io), V3 PL42B/LLM0_PLLC_FB_A (io), V4 PL42A/LLM0_PLLT_FB_A (io), W1 PL36A (io), W2 PL38B (io), Y1 PL38A (io)
part H pins: D1 PL6B (io), D2 PL6A (io), E1 PL12B (io), E2 PL7A/LUM0_PLLT_FB_A (io), E3 PL7B/LUM0_PLLC_FB_A (io), F1 PL12A (io), F2 PL8B (io), F3 PL8A (io), G1 PL15A (io), G2 PL11B (io), G3 PL11A/DQS (io), H1 PL16B/LUM0_PLLC_IN_A (io), H2 PL15B (io), H3 PL10B/VREF1_7 (io), H4 PL9A (io), J1 PL17A (io), J2 PL16A/LUM0_PLLT_IN_A (io), J3 PL19B (io), J4 PL13A (io), K1 PL20A/DQS (io), K2 PL17B (io), K3 PL18A/VREF2_7 (io), K4 PL13B (io), L1 PL22A (io), L2 PL20B (io), L3 PL21A (io), L4 PL21B (io), M1 PL22B (io)
part I pins: B1 DONE (io), B2 CFG1 (in), C1 CFG0 (in), D18 TCK (in), D19 TMS (in), D20 TDI (in), F4 PROGRAMN (in), F19 TDO (out), G4 CCLK (io), W5 TOE (in), Y2 INITN (io)
part J pins: E20 VCCJ (power), G7 VCCAUX (power), G8 VCCIO0 (power), G9 VCCIO0 (power), G10 VCCIO0 (power), G11 VCCIO0 (power), G12 VCCIO1 (power), G13 VCCIO1 (power), G14 VCCIO1 (power), G15 VCCIO1 (power), G16 VCCAUX (power), H7 VCCIO7 (power), H8 VCCIO0 (power), H9 VCC (power), H15 VCCIO1 (power), H16 VCCIO2 (power), J7 VCCIO7 (power), J8 VCC (power), J15 VCC (power), J16 VCCIO2 (power), K7 VCCIO7 (power), K8 VCC (power), K15 VCC (power), K16 VCCIO2 (power), L7 VCCIO7 (power), L8 VCC (power), L15 VCC (power), L16 VCCIO2 (power), M2 VCCP0 (power), M7 VCCIO6 (power), M8 VCC (power), M15 VCC (power), M16 VCCIO3 (power), M21 VCCP1 (power), N7 VCCIO6 (power), N8 VCC (power), N15 VCC (power), N16 VCCIO3 (power), P7 VCCIO6 (power), P8 VCC (power), P15 VCC (power), P16 VCCIO3 (power), R7 VCCIO6 (power), R8 VCCIO5 (power), R9 VCC (power), R15 VCCIO4 (power), R16 VCCIO3 (power), T7 VCCAUX (power), T8 VCCIO5 (power), T9 VCCIO5 (power), T10 VCCIO5 (power), T11 VCCIO5 (power), T12 VCCIO4 (power), T13 VCCIO4 (power), T14 VCCIO4 (power), T15 VCCIO4 (power), T16 VCCAUX (power)
part K pins: A1 GND (power), A22 GND (power), AB1 GND (power), AB22 GND (power), H10 GND (power), H11 GND (power), H12 GND (power), H13 GND (power), H14 GND (power), J9 GND (power), J10 GND (power), J11 GND (power), J12 GND (power), J13 GND (power), J14 GND (power), K9 GND (power), K10 GND (power), K11 GND (power), K12 GND (power), K13 GND (power), K14 GND (power), L9 GND (power), L10 GND (power), L11 GND (power), L12 GND (power), L13 GND (power), L14 GND (power), M9 GND (power), M10 GND (power), M11 GND (power), M12 GND (power), M13 GND (power), M14 GND (power), N1 GNDP0 (power), N9 GND (power), N10 GND (power), N11 GND (power), N12 GND (power), N13 GND (power), N14 GND (power), N22 GNDP1 (power), P9 GND (power), P10 GND (power), P11 GND (power), P12 GND (power), P13 GND (power), P14 GND (power), R10 GND (power), R11 GND (power), R12 GND (power), R13 GND (power), R14 GND (power)
part A text: BANK 0
part B text: BANK 1
part C text: BANK 2
part D text: BANK 3
part E text: BANK 4
part F text: BANK 5
part G text: BANK 6
part H text: BANK 7

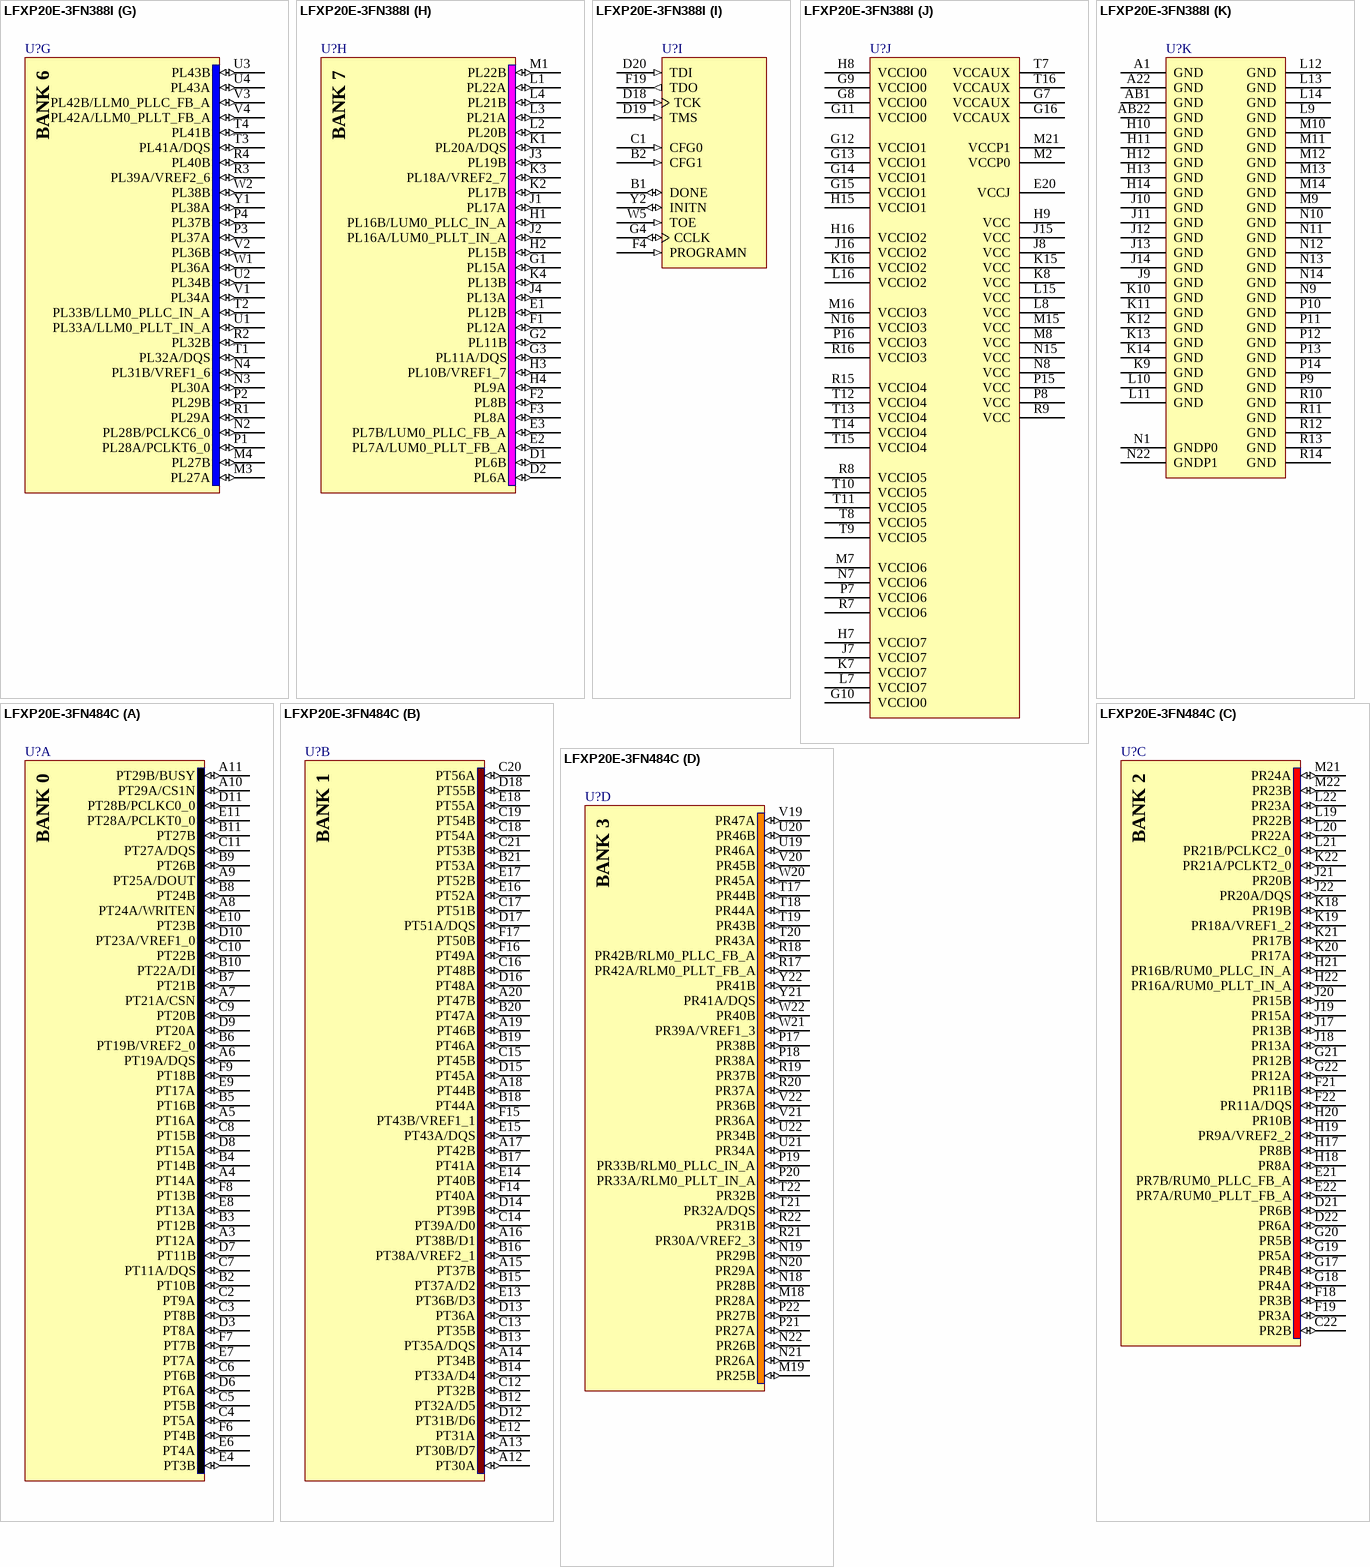
[diagram p225: symbols LFXP20E-3FN388I to LFXP20E-3FN484C]

## LFXP20E-3FN388I
designator U?
XP 1.2V FPGA, 268 I/Os, 20K LUTs, 388-Pin fpBGA, Speed Grade 3, Industrial Grade, Pb-Free; DatasheetVersion: ver05.1, Nov-2007; PackageVersion: ver01.8, Dec-2008; PackageReference: fpBGA388; PackageDescription: 388-Ball Fine Pitch Ball Grid Array (fpBGA388); ComponentLink1Description: Manufacturer URL; ComponentLink1URL: http://www.latticesemi.com/; ComponentLink2Description: Datasheet; ComponentLink2URL: http://www.latticesemi.com/lit/docs/datasheets/fpga/DS1001.pdf; ComponentLink3Description: Package Specification; ComponentLink3URL: http://www.latticesemi.com/lit/docs/package/pkg.pdf
footprint fpBGA388 (BGA, 388-Leads, Body 23x23mm, Pitch 1mm)
part A pins: A2 PT14A (io), A3 PT13B (io), A4 PT16A (io), A5 PT18B (io), A6 PT19B/VREF2_0 (io), A7 PT22A/DI (io), A8 PT23A/VREF1_0 (io), A9 PT24B (io), A10 PT28A/PCLKT0_0 (io), A11 PT28B/PCLKC0_0 (io), B3 PT13A (io), B4 PT14B (io), B5 PT17A (io), B6 PT19A/DQS (io), B7 PT21B (io), B8 PT23B (io), B9 PT27A/DQS (io), B10 PT27B (io), B11 PT29A/CS1N (io), C2 PT11B (io), C3 PT12A (io), C4 PT12B (io), C5 PT16B (io), C6 PT21A/CSN (io), C7 PT22B (io), C8 PT24A/WRITEN (io), C9 PT20A (io), C10 PT20B (io), C11 PT29B/BUSY (io), D3 PT11A/DQS (io), D4 PT8A (io), D5 PT7B (io), D6 PT9A (io), D7 PT10B (io), D8 PT15A (io), D9 PT15B (io), D10 PT25A/DOUT (io), D11 PT26B (io), E4 PT8B (io)
part B pins: A12 PT31A (io), A13 PT32A/D5 (io), A14 PT35A/DQS (io), A15 PT36A (io), A16 PT37A/D2 (io), A17 PT38A/VREF2_1 (io), A18 PT40A (io), A19 PT41A (io), A20 PT43A/DQS (io), A21 PT45A (io), B12 PT30B/D7 (io), B13 PT31B/D6 (io), B14 PT32B (io), B15 PT35B (io), B16 PT36B/D3 (io), B17 PT37B (io), B18 PT38B/D1 (io), B19 PT40B (io), B20 PT42B (io), B21 PT43B/VREF1_1 (io), B22 PT45B (io), C12 PT30A (io), C13 PT39A/D0 (io), C14 PT39B (io), C15 PT49A (io), C16 PT50B (io), C17 PT48B (io), C18 PT48A (io), C19 PT47B (io), C20 PT47A (io), C21 PT46B (io), C22 PT46A (io), D12 PT33A/D4 (io), D13 PT34B (io), D14 PT44A (io), D15 PT44B (io), D16 PT51A/DQS (io), D17 PT51B (io), E19 PT52A (io)
part C pins: D21 PR6A (io), D22 PR6B (io), E21 PR7A/RUM0_PLLT_FB_A (io), E22 PR7B/RUM0_PLLC_FB_A (io), F20 PR10B (io), F21 PR8A (io), F22 PR8B (io), G19 PR12A (io), G20 PR9A/VREF2_2 (io), G21 PR11A/DQS (io), G22 PR11B (io), H19 PR12B (io), H20 PR13A (io), H21 PR16A/RUM0_PLLT_IN_A (io), H22 PR16B/RUM0_PLLC_IN_A (io), J19 PR15A (io), J20 PR13B (io), J21 PR17A (io), J22 PR17B (io), K19 PR15B (io), K20 PR20A/DQS (io), K21 PR21A/PCLKT2_0 (io), K22 PR21B/PCLKC2_0 (io), L19 PR20B (io), L20 PR19B (io), L21 PR18A/VREF1_2 (io), L22 PR22A (io), M22 PR22B (io)
part D pins: M19 PR27A (io), M20 PR27B (io), N19 PR31B (io), N20 PR30A/VREF2_3 (io), N21 PR28A (io), P19 PR37B (io), P20 PR37A (io), P21 PR28B (io), P22 PR29A (io), R19 PR40B (io), R20 PR39A/VREF1_3 (io), R21 PR32B (io), R22 PR29B (io), T19 PR43A (io), T20 PR43B (io), T21 PR33B/RLM0_PLLC_IN_A (io), T22 PR32A/DQS (io), U19 PR42B/RLM0_PLLC_FB_A (io), U20 PR42A/RLM0_PLLT_FB_A (io), U21 PR34B (io), U22 PR33A/RLM0_PLLT_IN_A (io), V19 PR41B (io), V20 PR41A/DQS (io), V21 PR36B (io), V22 PR34A (io), W21 PR38B (io), W22 PR36A (io), Y22 PR38A (io)
part E pins: AA12 PB30B (io), AA13 PB31B/PCLKC4_0 (io), AA14 PB32A (io), AA15 PB35A/DQS (io), AA16 PB36A (io), AA17 PB37B (io), AA18 PB40A/VREF2_4 (io), AA19 PB43A/DQS (io), AA20 PB45B (io), AA21 PB46B (io), AA22 PB47A (io), AB12 PB30A (io), AB13 PB31A/PCLKT4_0 (io), AB14 PB32B (io), AB15 PB35B/VREF1_4 (io), AB16 PB36B (io), AB17 PB39A (io), AB18 PB40B (io), AB19 PB42B (io), AB20 PB45A (io), AB21 PB46A (io), W12 PB33A (io), W13 PB34B (io), W14 PB44A (io), W15 PB44B (io), W16 PB48A (io), W17 PB48B (io), W18 PB51B (io), W19 PB51A/DQS (io), W20 PB52A (io), Y13 PB38A (io), Y14 PB38B (io), Y15 PB49A (io), Y16 PB50B (io), Y17 PB37A (io), Y18 PB39B (io), Y19 PB41A (io), Y20 PB43B (io), Y21 PB47B (io)
part F pins: AA1 PB10B (io), AA2 PB9A (io), AA3 PB13B (io), AA4 PB14B (io), AA5 PB16B (io), AA6 PB19A/DQS (io), AA7 PB21A (io), AA8 PB22B (io), AA9 PB24B (io), AA10 PB27B (io), AA11 PB28A (io), AB2 PB13A (io), AB3 PB14A (io), AB4 PB16A/VREF1_5 (io), AB5 PB17A (io), AB6 PB19B (io), AB7 PB21B/VREF2_5 (io), AB8 PB23A (io), AB9 PB24A (io), AB10 PB27A/DQS (io), AB11 PB28B (io), W3 PB8A (io), W4 PB8B (io), W6 PB11A/DQS (io), W7 PB11B (io), W8 PB15A (io), W9 PB15B (io), W10 PB25A (io), W11 PB26B (io), Y3 PB7B (io), Y4 PB12A (io), Y5 PB12B (io), Y6 PB18B (io), Y7 PB22A (io), Y8 PB23B (io), Y9 PB20A (io), Y10 PB20B (io), Y11 PB29A (io), Y12 PB29B (io)
part G pins: M3 PL27A (io), M4 PL27B (io), N2 PL28B/PCLKC6_0 (io), N3 PL30A (io), N4 PL31B/VREF1_6 (io), P1 PL28A/PCLKT6_0 (io), P2 PL29B (io), P3 PL37A (io), P4 PL37B (io), R1 PL29A (io), R2 PL32B (io), R3 PL39A/VREF2_6 (io), R4 PL40B (io), T1 PL32A/DQS (io), T2 PL33B/LLM0_PLLC_IN_A (io), T3 PL41A/DQS (io), T4 PL41B (io), U1 PL33A/LLM0_PLLT_IN_A (io), U2 PL34B (io), U3 PL43B (io), U4 PL43A (io), V1 PL34A (io), V2 PL36B (io), V3 PL42B/LLM0_PLLC_FB_A (io), V4 PL42A/LLM0_PLLT_FB_A (io), W1 PL36A (io), W2 PL38B (io), Y1 PL38A (io)
part H pins: D1 PL6B (io), D2 PL6A (io), E1 PL12B (io), E2 PL7A/LUM0_PLLT_FB_A (io), E3 PL7B/LUM0_PLLC_FB_A (io), F1 PL12A (io), F2 PL8B (io), F3 PL8A (io), G1 PL15A (io), G2 PL11B (io), G3 PL11A/DQS (io), H1 PL16B/LUM0_PLLC_IN_A (io), H2 PL15B (io), H3 PL10B/VREF1_7 (io), H4 PL9A (io), J1 PL17A (io), J2 PL16A/LUM0_PLLT_IN_A (io), J3 PL19B (io), J4 PL13A (io), K1 PL20A/DQS (io), K2 PL17B (io), K3 PL18A/VREF2_7 (io), K4 PL13B (io), L1 PL22A (io), L2 PL20B (io), L3 PL21A (io), L4 PL21B (io), M1 PL22B (io)
part I pins: B1 DONE (io), B2 CFG1 (in), C1 CFG0 (in), D18 TCK (in), D19 TMS (in), D20 TDI (in), F4 PROGRAMN (in), F19 TDO (out), G4 CCLK (io), W5 TOE (in), Y2 INITN (io)
part J pins: E20 VCCJ (power), G7 VCCAUX (power), G8 VCCIO0 (power), G9 VCCIO0 (power), G10 VCCIO0 (power), G11 VCCIO0 (power), G12 VCCIO1 (power), G13 VCCIO1 (power), G14 VCCIO1 (power), G15 VCCIO1 (power), G16 VCCAUX (power), H7 VCCIO7 (power), H8 VCCIO0 (power), H9 VCC (power), H15 VCCIO1 (power), H16 VCCIO2 (power), J7 VCCIO7 (power), J8 VCC (power), J15 VCC (power), J16 VCCIO2 (power), K7 VCCIO7 (power), K8 VCC (power), K15 VCC (power), K16 VCCIO2 (power), L7 VCCIO7 (power), L8 VCC (power), L15 VCC (power), L16 VCCIO2 (power), M2 VCCP0 (power), M7 VCCIO6 (power), M8 VCC (power), M15 VCC (power), M16 VCCIO3 (power), M21 VCCP1 (power), N7 VCCIO6 (power), N8 VCC (power), N15 VCC (power), N16 VCCIO3 (power), P7 VCCIO6 (power), P8 VCC (power), P15 VCC (power), P16 VCCIO3 (power), R7 VCCIO6 (power), R8 VCCIO5 (power), R9 VCC (power), R15 VCCIO4 (power), R16 VCCIO3 (power), T7 VCCAUX (power), T8 VCCIO5 (power), T9 VCCIO5 (power), T10 VCCIO5 (power), T11 VCCIO5 (power), T12 VCCIO4 (power), T13 VCCIO4 (power), T14 VCCIO4 (power), T15 VCCIO4 (power), T16 VCCAUX (power)
part K pins: A1 GND (power), A22 GND (power), AB1 GND (power), AB22 GND (power), H10 GND (power), H11 GND (power), H12 GND (power), H13 GND (power), H14 GND (power), J9 GND (power), J10 GND (power), J11 GND (power), J12 GND (power), J13 GND (power), J14 GND (power), K9 GND (power), K10 GND (power), K11 GND (power), K12 GND (power), K13 GND (power), K14 GND (power), L9 GND (power), L10 GND (power), L11 GND (power), L12 GND (power), L13 GND (power), L14 GND (power), M9 GND (power), M10 GND (power), M11 GND (power), M12 GND (power), M13 GND (power), M14 GND (power), N1 GNDP0 (power), N9 GND (power), N10 GND (power), N11 GND (power), N12 GND (power), N13 GND (power), N14 GND (power), N22 GNDP1 (power), P9 GND (power), P10 GND (power), P11 GND (power), P12 GND (power), P13 GND (power), P14 GND (power), R10 GND (power), R11 GND (power), R12 GND (power), R13 GND (power), R14 GND (power)
part A text: BANK 0
part B text: BANK 1
part C text: BANK 2
part D text: BANK 3
part E text: BANK 4
part F text: BANK 5
part G text: BANK 6
part H text: BANK 7

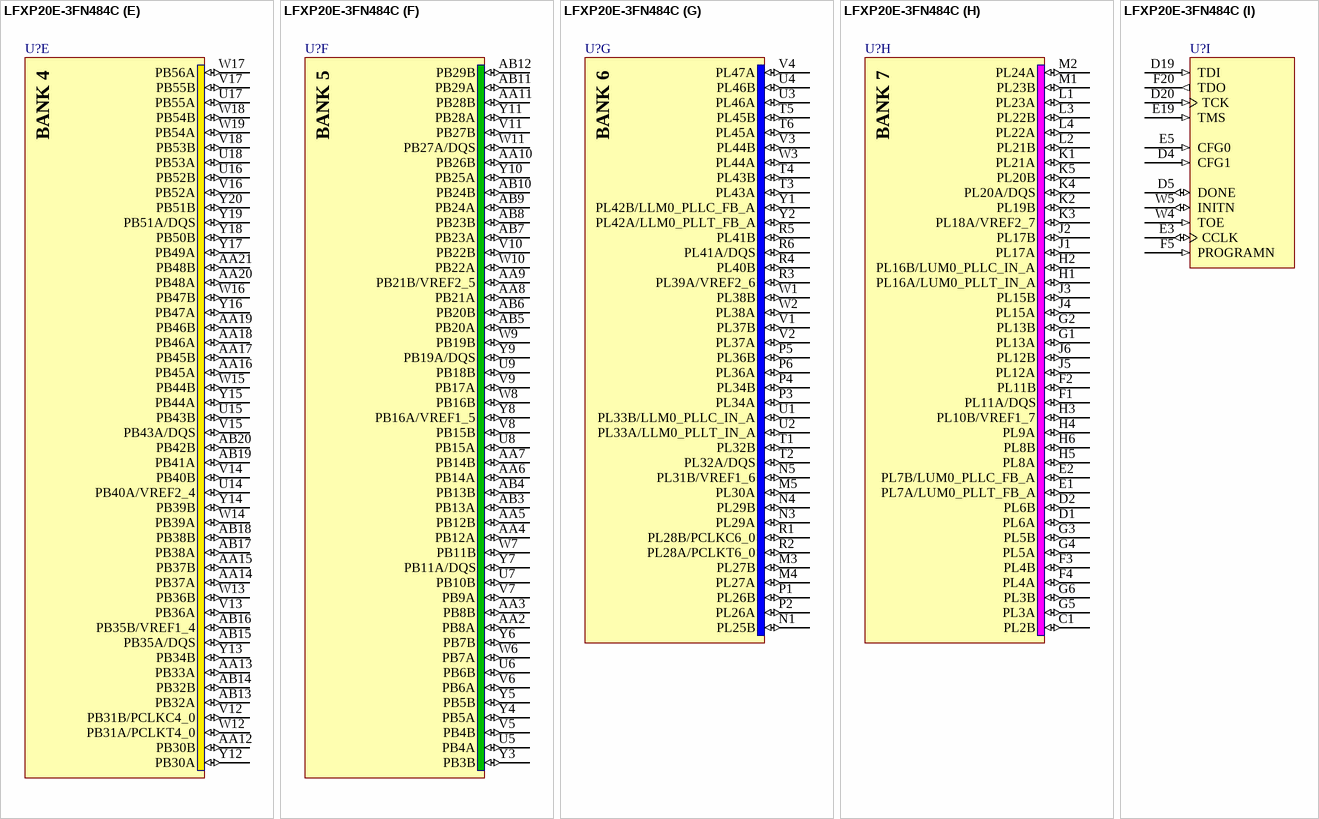
[diagram p226: symbol LFXP20E-3FN484C]

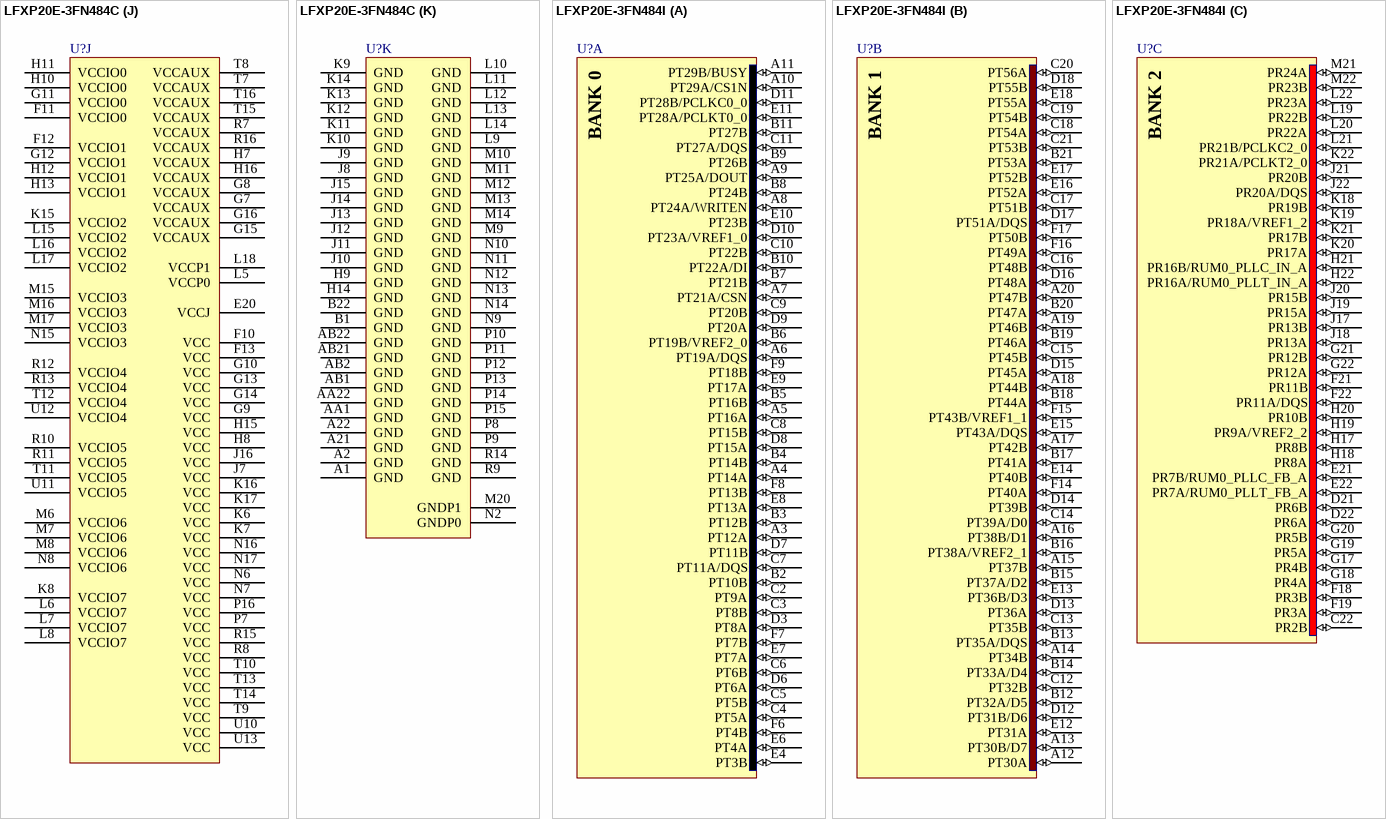
[diagram p227: symbols LFXP20E-3FN484C to LFXP20E-3FN484I]

## LFXP20E-3FN484C
designator U?
XP 1.2V FPGA, 340 I/Os, 20K LUTs, 484-Pin fpBGA, Speed Grade 3, Commerical Grade, Pb-Free; DatasheetVersion: ver05.1, Nov-2007; PackageVersion: ver02.8, Jul-2011; PackageReference: fpBGA484; PackageDescription: 484-Ball Fine Pitch Ball Grid Array (fpBGA484); Code_IPC: BGA100P22X22-484; ComponentLink1Description: Manufacturer URL; ComponentLink1URL: http://www.latticesemi.com/; ComponentLink2Description: Datasheet; ComponentLink2URL: http://www.latticesemi.com/lit/docs/datasheets/fpga/DS1001.pdf; ComponentLink3Description: Package Specification; ComponentLink3URL: http://www.latticesemi.com/lit/docs/package/pkg.pdf
footprint fpBGA484 (BGA, 484-Leads, Body 23x23mm, Pitch 1mm)
part A pins: A3 PT12A (io), A4 PT14A (io), A5 PT16A (io), A6 PT19A/DQS (io), A7 PT21A/CSN (io), A8 PT24A/WRITEN (io), A9 PT25A/DOUT (io), A10 PT29A/CS1N (io), A11 PT29B/BUSY (io), B2 PT10B (io), B3 PT12B (io), B4 PT14B (io), B5 PT16B (io), B6 PT19B/VREF2_0 (io), B7 PT21B (io), B8 PT24B (io), B9 PT26B (io), B10 PT22A/DI (io), B11 PT27B (io), C2 PT9A (io), C3 PT8B (io), C4 PT5A (io), C5 PT5B (io), C6 PT6B (io), C7 PT11A/DQS (io), C8 PT15B (io), C9 PT20B (io), C10 PT22B (io), C11 PT27A/DQS (io), D3 PT8A (io), D6 PT6A (io), D7 PT11B (io), D8 PT15A (io), D9 PT20A (io), D10 PT23A/VREF1_0 (io), D11 PT28B/PCLKC0_0 (io), E4 PT3B (io), E6 PT4A (io), E7 PT7A (io), E8 PT13A (io), E9 PT17A (io), E10 PT23B (io), E11 PT28A/PCLKT0_0 (io), F6 PT4B (io), F7 PT7B (io), F8 PT13B (io), F9 PT18B (io)
part B pins: A12 PT30A (io), A13 PT30B/D7 (io), A14 PT34B (io), A15 PT37B (io), A16 PT38B/D1 (io), A17 PT42B (io), A18 PT44B (io), A19 PT46B (io), A20 PT47B (io), B12 PT32A/D5 (io), B13 PT35A/DQS (io), B14 PT33A/D4 (io), B15 PT37A/D2 (io), B16 PT38A/VREF2_1 (io), B17 PT41A (io), B18 PT44A (io), B19 PT46A (io), B20 PT47A (io), B21 PT53A (io), C12 PT32B (io), C13 PT35B (io), C14 PT39A/D0 (io), C15 PT45B (io), C16 PT48B (io), C17 PT51B (io), C18 PT54A (io), C19 PT54B (io), C20 PT56A (io), C21 PT53B (io), D12 PT31B/D6 (io), D13 PT36A (io), D14 PT39B (io), D15 PT45A (io), D16 PT48A (io), D17 PT51A/DQS (io), D18 PT55B (io), E12 PT31A (io), E13 PT36B/D3 (io), E14 PT40B (io), E15 PT43A/DQS (io), E16 PT52A (io), E17 PT52B (io), E18 PT55A (io), F14 PT40A (io), F15 PT43B/VREF1_1 (io), F16 PT49A (io), F17 PT50B (io)
part C pins: C22 PR2B (io), D21 PR6B (io), D22 PR6A (io), E21 PR7B/RUM0_PLLC_FB_A (io), E22 PR7A/RUM0_PLLT_FB_A (io), F18 PR3B (io), F19 PR3A (io), F21 PR11B (io), F22 PR11A/DQS (io), G17 PR4B (io), G18 PR4A (io), G19 PR5A (io), G20 PR5B (io), G21 PR12B (io), G22 PR12A (io), H17 PR8B (io), H18 PR8A (io), H19 PR9A/VREF2_2 (io), H20 PR10B (io), H21 PR16B/RUM0_PLLC_IN_A (io), H22 PR16A/RUM0_PLLT_IN_A (io), J17 PR13B (io), J18 PR13A (io), J19 PR15A (io), J20 PR15B (io), J21 PR20B (io), J22 PR20A/DQS (io), K18 PR19B (io), K19 PR18A/VREF1_2 (io), K20 PR17A (io), K21 PR17B (io), K22 PR21A/PCLKT2_0 (io), L19 PR22B (io), L20 PR22A (io), L21 PR21B/PCLKC2_0 (io), L22 PR23A (io), M21 PR24A (io), M22 PR23B (io)
part D pins: M18 PR28A (io), M19 PR25B (io), N18 PR28B (io), N19 PR29B (io), N20 PR29A (io), N21 PR26A (io), N22 PR26B (io), P17 PR38B (io), P18 PR38A (io), P19 PR33B/RLM0_PLLC_IN_A (io), P20 PR33A/RLM0_PLLT_IN_A (io), P21 PR27A (io), P22 PR27B (io), R17 PR42A/RLM0_PLLT_FB_A (io), R18 PR42B/RLM0_PLLC_FB_A (io), R19 PR37B (io), R20 PR37A (io), R21 PR30A/VREF2_3 (io), R22 PR31B (io), T17 PR44B (io), T18 PR44A (io), T19 PR43B (io), T20 PR43A (io), T21 PR32A/DQS (io), T22 PR32B (io), U19 PR46A (io), U20 PR46B (io), U21 PR34A (io), U22 PR34B (io), V19 PR47A (io), V20 PR45B (io), V21 PR36A (io), V22 PR36B (io), W20 PR45A (io), W21 PR39A/VREF1_3 (io), W22 PR40B (io), Y21 PR41A/DQS (io), Y22 PR41B (io)
part E pins: AA12 PB30B (io), AA13 PB33A (io), AA14 PB37A (io), AA15 PB37B (io), AA16 PB45A (io), AA17 PB45B (io), AA18 PB46A (io), AA19 PB46B (io), AA20 PB48A (io), AA21 PB48B (io), AB13 PB32A (io), AB14 PB32B (io), AB15 PB35A/DQS (io), AB16 PB35B/VREF1_4 (io), AB17 PB38A (io), AB18 PB38B (io), AB19 PB41A (io), AB20 PB42B (io), U14 PB40A/VREF2_4 (io), U15 PB43B (io), U16 PB52B (io), U17 PB55A (io), U18 PB53A (io), V12 PB31B/PCLKC4_0 (io), V13 PB36A (io), V14 PB40B (io), V15 PB43A/DQS (io), V16 PB52A (io), V17 PB55B (io), V18 PB53B (io), W12 PB31A/PCLKT4_0 (io), W13 PB36B (io), W14 PB39A (io), W15 PB44B (io), W16 PB47B (io), W17 PB56A (io), W18 PB54B (io), W19 PB54A (io), Y12 PB30A (io), Y13 PB34B (io), Y14 PB39B (io), Y15 PB44A (io), Y16 PB47A (io), Y17 PB49A (io), Y18 PB50B (io), Y19 PB51A/DQS (io), Y20 PB51B (io)
part F pins: AA2 PB8A (io), AA3 PB8B (io), AA4 PB12A (io), AA5 PB12B (io), AA6 PB14A (io), AA7 PB14B (io), AA8 PB21A (io), AA9 PB21B/VREF2_5 (io), AA10 PB26B (io), AA11 PB28B (io), AB3 PB13A (io), AB4 PB13B (io), AB5 PB20A (io), AB6 PB20B (io), AB7 PB23A (io), AB8 PB23B (io), AB9 PB24A (io), AB10 PB24B (io), AB11 PB29A (io), AB12 PB29B (io), U5 PB4A (io), U6 PB6B (io), U7 PB10B (io), U8 PB15A (io), U9 PB18B (io), V5 PB4B (io), V6 PB6A (io), V7 PB9A (io), V8 PB15B (io), V9 PB17A (io), V10 PB22B (io), V11 PB27B (io), W6 PB7A (io), W7 PB11B (io), W8 PB16B (io), W9 PB19B (io), W10 PB22A (io), W11 PB27A/DQS (io), Y3 PB3B (io), Y4 PB5A (io), Y5 PB5B (io), Y6 PB7B (io), Y7 PB11A/DQS (io), Y8 PB16A/VREF1_5 (io), Y9 PB19A/DQS (io), Y10 PB25A (io), Y11 PB28A (io)
part G pins: M3 PL27B (io), M4 PL27A (io), M5 PL30A (io), N1 PL25B (io), N3 PL29A (io), N4 PL29B (io), N5 PL31B/VREF1_6 (io), P1 PL26B (io), P2 PL26A (io), P3 PL34A (io), P4 PL34B (io), P5 PL36B (io), P6 PL36A (io), R1 PL28B/PCLKC6_0 (io), R2 PL28A/PCLKT6_0 (io), R3 PL39A/VREF2_6 (io), R4 PL40B (io), R5 PL41B (io), R6 PL41A/DQS (io), T1 PL32B (io), T2 PL32A/DQS (io), T3 PL43A (io), T4 PL43B (io), T5 PL45B (io), T6 PL45A (io), U1 PL33B/LLM0_PLLC_IN_A (io), U2 PL33A/LLM0_PLLT_IN_A (io), U3 PL46A (io), U4 PL46B (io), V1 PL37B (io), V2 PL37A (io), V3 PL44B (io), V4 PL47A (io), W1 PL38B (io), W2 PL38A (io), W3 PL44A (io), Y1 PL42B/LLM0_PLLC_FB_A (io), Y2 PL42A/LLM0_PLLT_FB_A (io)
part H pins: C1 PL2B (io), D1 PL6A (io), D2 PL6B (io), E1 PL7A/LUM0_PLLT_FB_A (io), E2 PL7B/LUM0_PLLC_FB_A (io), F1 PL11A/DQS (io), F2 PL11B (io), F3 PL4B (io), F4 PL4A (io), G1 PL13A (io), G2 PL13B (io), G3 PL5B (io), G4 PL5A (io), G5 PL3A (io), G6 PL3B (io), H1 PL16A/LUM0_PLLT_IN_A (io), H2 PL16B/LUM0_PLLC_IN_A (io), H3 PL10B/VREF1_7 (io), H4 PL9A (io), H5 PL8A (io), H6 PL8B (io), J1 PL17A (io), J2 PL17B (io), J3 PL15B (io), J4 PL15A (io), J5 PL12A (io), J6 PL12B (io), K1 PL21A (io), K2 PL19B (io), K3 PL18A/VREF2_7 (io), K4 PL20A/DQS (io), K5 PL20B (io), L1 PL23A (io), L2 PL21B (io), L3 PL22B (io), L4 PL22A (io), M1 PL23B (io), M2 PL24A (io)
part I pins: D4 CFG1 (in), D5 DONE (io), D19 TDI (in), D20 TCK (in), E3 CCLK (io), E5 CFG0 (in), E19 TMS (in), F5 PROGRAMN (in), F20 TDO (out), W4 TOE (in), W5 INITN (io)
part J pins: E20 VCCJ (power), F10 VCC (power), F11 VCCIO0 (power), F12 VCCIO1 (power), F13 VCC (power), G7 VCCAUX (power), G8 VCCAUX (power), G9 VCC (power), G10 VCC (power), G11 VCCIO0 (power), G12 VCCIO1 (power), G13 VCC (power), G14 VCC (power), G15 VCCAUX (power), G16 VCCAUX (power), H7 VCCAUX (power), H8 VCC (power), H10 VCCIO0 (power), H11 VCCIO0 (power), H12 VCCIO1 (power), H13 VCCIO1 (power), H15 VCC (power), H16 VCCAUX (power), J7 VCC (power), J16 VCC (power), K6 VCC (power), K7 VCC (power), K8 VCCIO7 (power), K15 VCCIO2 (power), K16 VCC (power), K17 VCC (power), L5 VCCP0 (power), L6 VCCIO7 (power), L7 VCCIO7 (power), L8 VCCIO7 (power), L15 VCCIO2 (power), L16 VCCIO2 (power), L17 VCCIO2 (power), L18 VCCP1 (power), M6 VCCIO6 (power), M7 VCCIO6 (power), M8 VCCIO6 (power), M15 VCCIO3 (power), M16 VCCIO3 (power), M17 VCCIO3 (power), N6 VCC (power), N7 VCC (power), N8 VCCIO6 (power), N15 VCCIO3 (power), N16 VCC (power), N17 VCC (power), P7 VCC (power), P16 VCC (power), R7 VCCAUX (power), R8 VCC (power), R10 VCCIO5 (power), R11 VCCIO5 (power), R12 VCCIO4 (power), R13 VCCIO4 (power), R15 VCC (power), R16 VCCAUX (power), T7 VCCAUX (power), T8 VCCAUX (power), T9 VCC (power), T10 VCC (power), T11 VCCIO5 (power), T12 VCCIO4 (power), T13 VCC (power), T14 VCC (power), T15 VCCAUX (power), T16 VCCAUX (power), U10 VCC (power), U11 VCCIO5 (power), U12 VCCIO4 (power), U13 VCC (power)
part K pins: A1 GND (power), A2 GND (power), A21 GND (power), A22 GND (power), AA1 GND (power), AA22 GND (power), AB1 GND (power), AB2 GND (power), AB21 GND (power), AB22 GND (power), B1 GND (power), B22 GND (power), H9 GND (power), H14 GND (power), J8 GND (power), J9 GND (power), J10 GND (power), J11 GND (power), J12 GND (power), J13 GND (power), J14 GND (power), J15 GND (power), K9 GND (power), K10 GND (power), K11 GND (power), K12 GND (power), K13 GND (power), K14 GND (power), L9 GND (power), L10 GND (power), L11 GND (power), L12 GND (power), L13 GND (power), L14 GND (power), M9 GND (power), M10 GND (power), M11 GND (power), M12 GND (power), M13 GND (power), M14 GND (power), M20 GNDP1 (power), N2 GNDP0 (power), N9 GND (power), N10 GND (power), N11 GND (power), N12 GND (power), N13 GND (power), N14 GND (power), P8 GND (power), P9 GND (power), P10 GND (power), P11 GND (power), P12 GND (power), P13 GND (power), P14 GND (power), P15 GND (power), R9 GND (power), R14 GND (power)
part A text: BANK 0
part B text: BANK 1
part C text: BANK 2
part D text: BANK 3
part E text: BANK 4
part F text: BANK 5
part G text: BANK 6
part H text: BANK 7

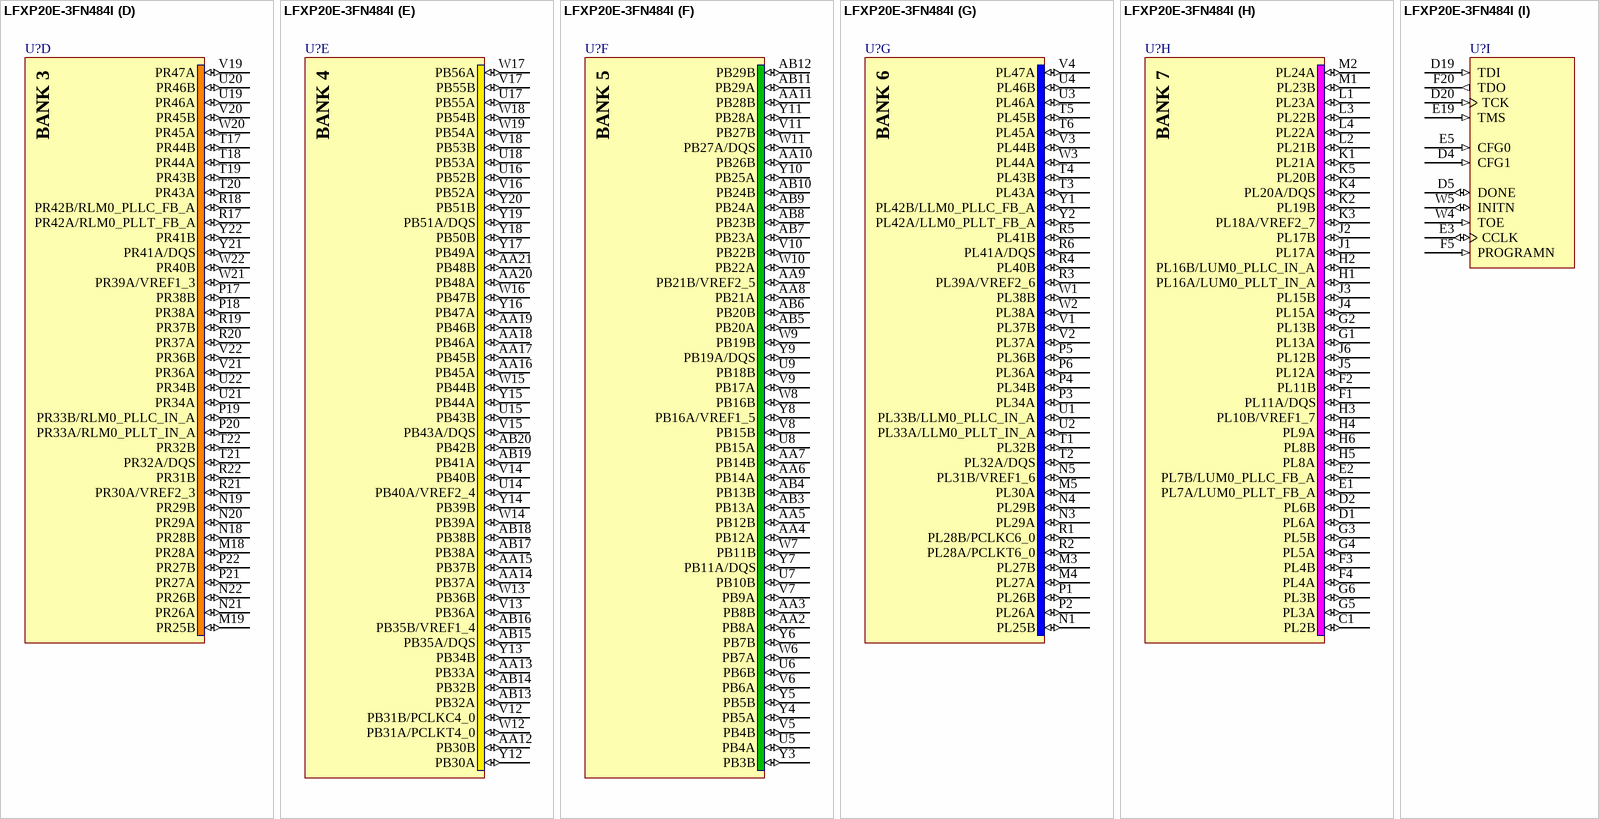
[diagram p228: symbol LFXP20E-3FN484I]

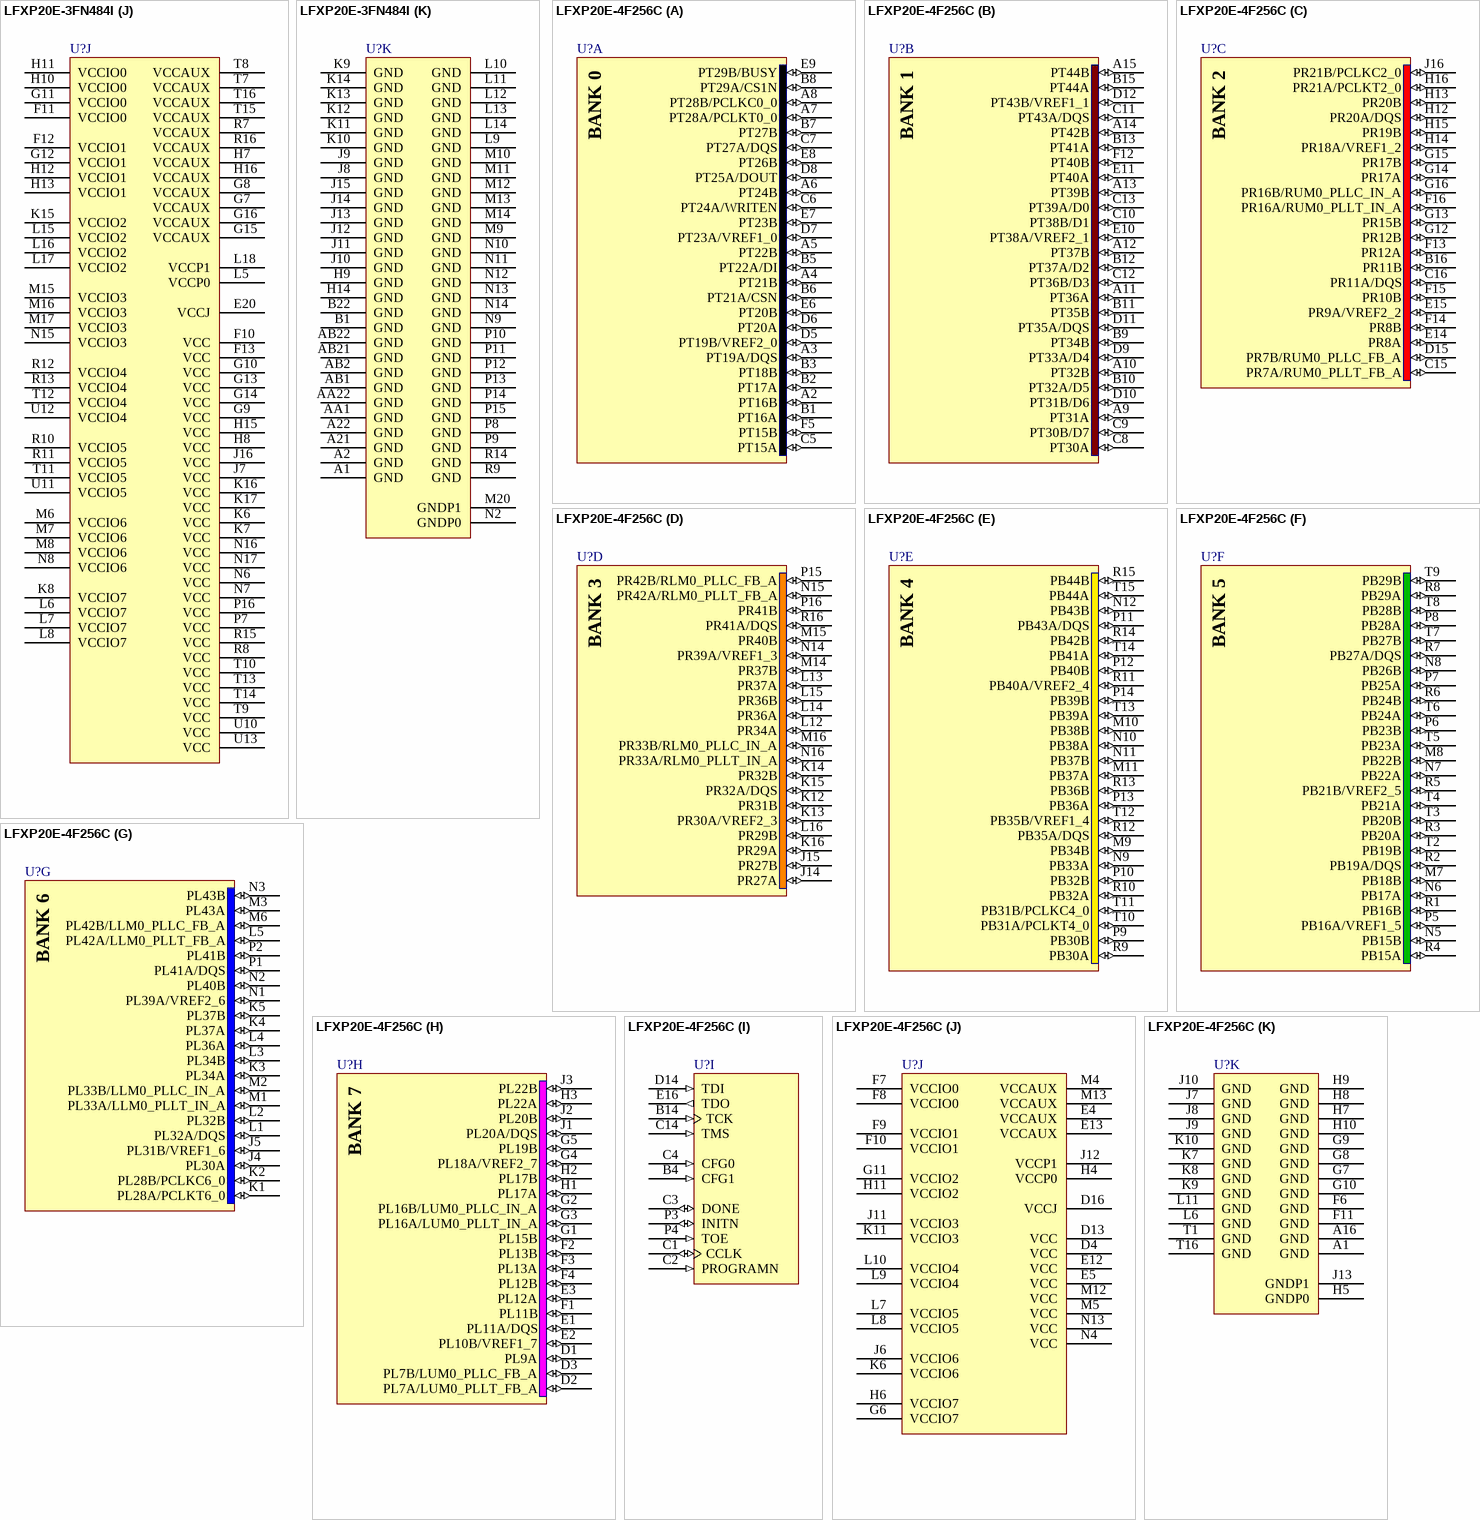
[diagram p229: symbols LFXP20E-3FN484I to LFXP20E-4F256C]